# Altium integrated library Zynq-7000.IntLib: 45 symbols (part 3 of 17)
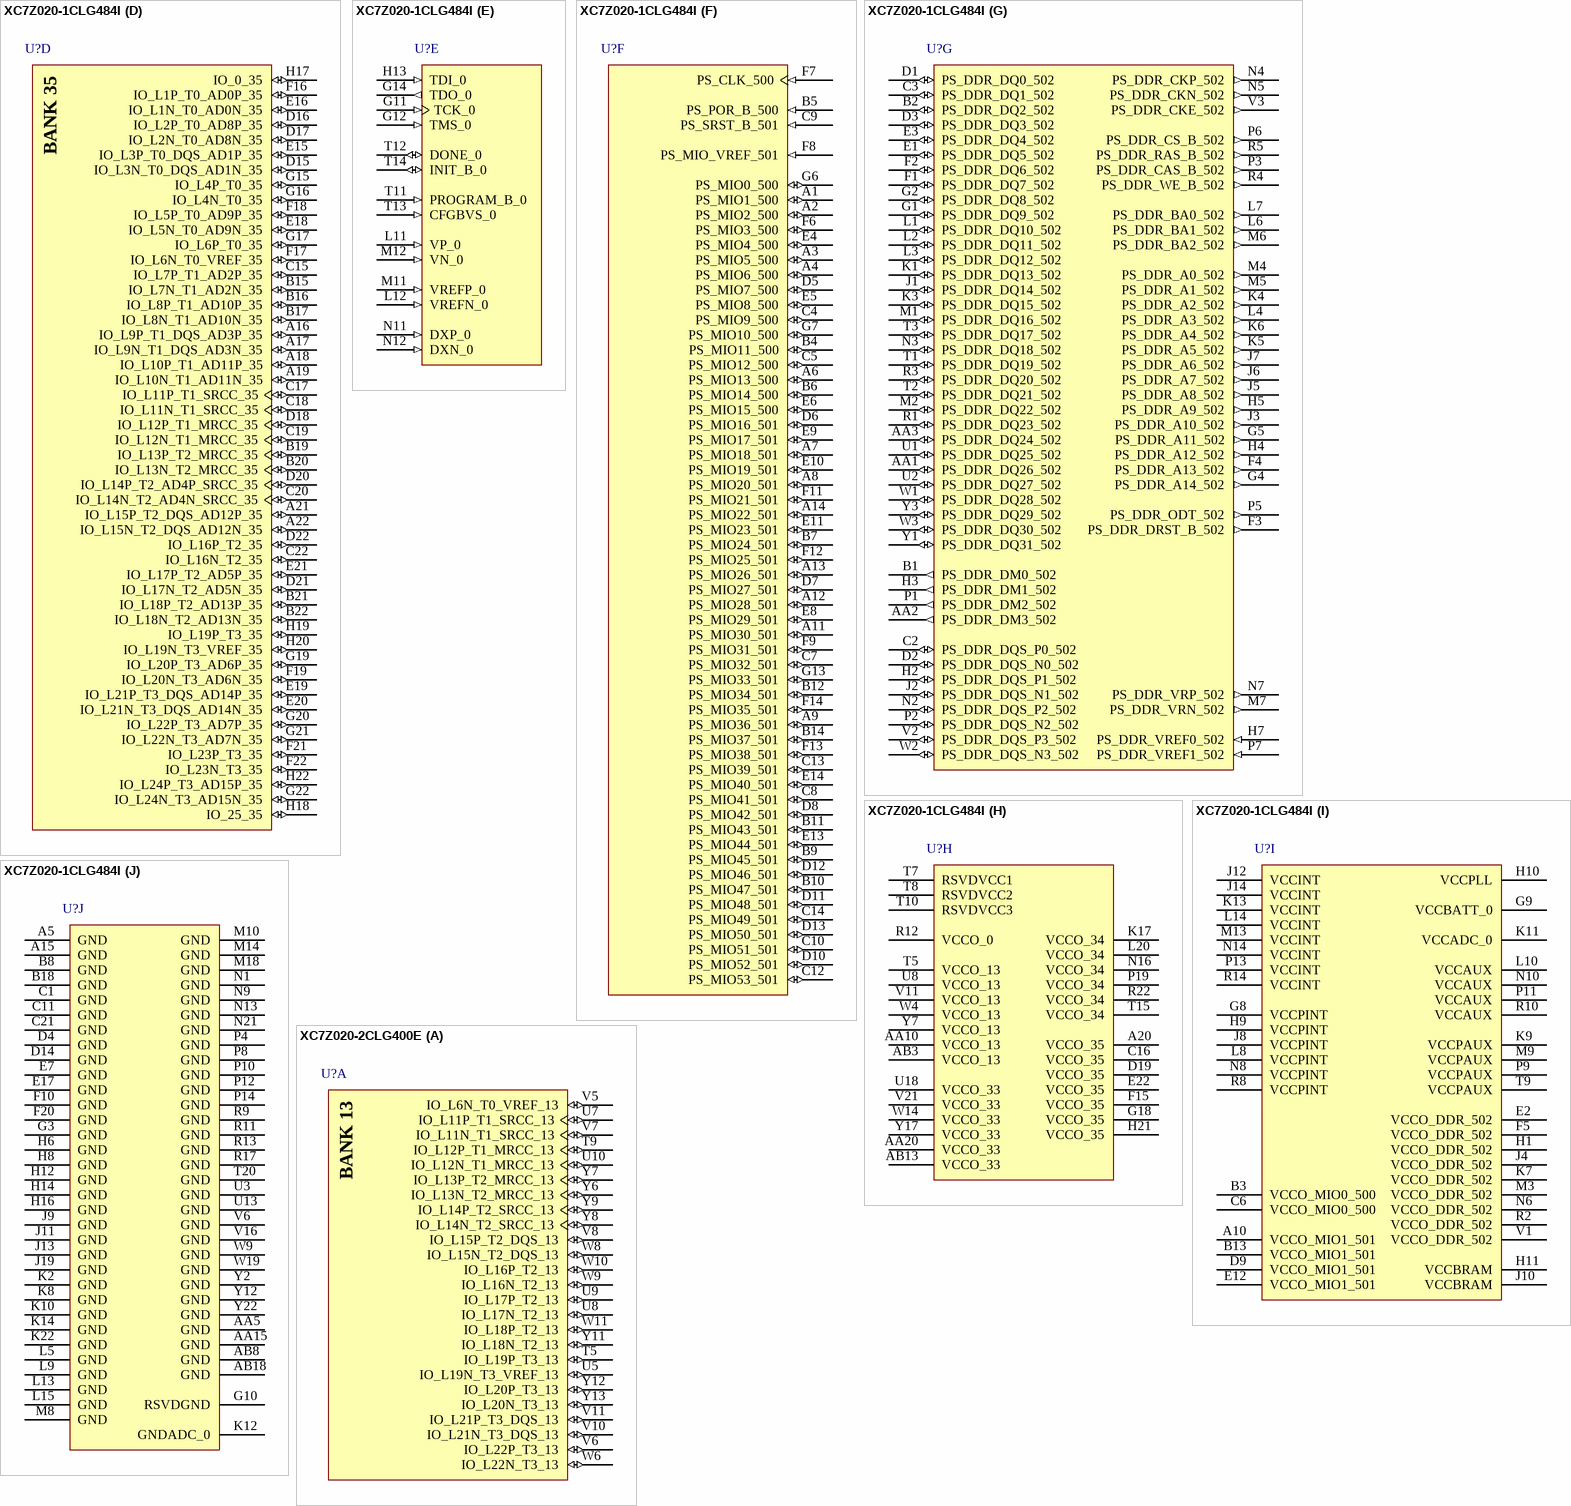
[diagram p97: symbols XC7Z020-1CLG484I to XC7Z020-2CLG400E]

## XC7Z020-1CLG484I
designator U?
667 MHz Zynq™-7000 AP SoC, 130 PS I/O, 200 FPGA I/O, 484-Ball BGA, Speed Grade 1, Industrial Grade, Pb-Free; Generic Part Number: XC7Z020; Manufacturer: Xilinx; PartNumber: XC7Z020-1CLG484I; Extensible Block RAM (# 36Kb Blocks): 560 KB (140); Flip Flops: 106400; LUTs: 53200; Speed Grade: -1; DatasheetVersion: v1.2; PackageVersion: Rev 1.1; PackageReference: CLG484; PackageDescription: Wire-Bond Chip-Scale BGA, Body 19 x 19 mm, 0.8 mm Pitch; RoHS: Pb-Free; Mounting Technology: Surface Mount; Code_JEDEC: MO-275-PPAA-2; ComponentLink1Description: Datasheet; ComponentLink1URL: http://www.xilinx.com/support/documentation/data_sheets/ds190-Zynq-7000-Overview.pdf; ComponentLink2Description: Package Specification; ComponentLink2URL: http://www.xilinx.com/support/documentation/user_guides/ug865-Zynq-7000-Pkg-Pinout.pdf; ComponentLink3Description: DC and AC Switching Characteristics; ComponentLink3URL: http://www.xilinx.com/support/documentation/data_sheets/ds187-XC7Z010-XC7Z020-Data-Sheet.pdf; ComponentLink4Description: Package File; ComponentLink4URL: http://www.xilinx.com/support/packagefiles/z7packages/xc7z020clg484pkg.txt; ComponentLink5Description: Packaging and Pinout; ComponentLink5URL: http://www.xilinx.com/support/documentation/user_guides/ug865-Zynq-7000-Pkg-Pinout.pdf; ComponentLink6Description: PCB and Layout Guide; ComponentLink6URL: http://www.xilinx.com/support/documentation/user_guides/ug483_7Series_PCB.pdf
footprint CLG484 (BGA, 484-Balls, Body 19x19mm, Pitch 0.8mm)
part A pins: AA4 IO_L18N_T2_13 (io), AA6 IO_L14N_T2_SRCC_13 (io), AA7 IO_L14P_T2_SRCC_13 (io), AA8 IO_L11N_T1_SRCC_13 (io), AA9 IO_L11P_T1_SRCC_13 (io), AA11 IO_L8P_T1_13 (io), AA12 IO_L7P_T1_13 (io), AB1 IO_L15N_T2_DQS_13 (io), AB2 IO_L15P_T2_DQS_13 (io), AB4 IO_L16N_T2_13 (io), AB5 IO_L16P_T2_13 (io), AB6 IO_L17N_T2_13 (io), AB7 IO_L17P_T2_13 (io), AB9 IO_L9N_T1_DQS_13 (io), AB10 IO_L9P_T1_DQS_13 (io), AB11 IO_L8N_T1_13 (io), AB12 IO_L7N_T1_13 (io), R6 IO_L19P_T3_13 (io), R7 IO_0_13 (io), T4 IO_L20P_T3_13 (io), T6 IO_L19N_T3_VREF_13 (io), U4 IO_L20N_T3_13 (io), U5 IO_L22N_T3_13 (io), U6 IO_L22P_T3_13 (io), U7 IO_25_13 (io), U9 IO_L6N_T0_VREF_13 (io), U10 IO_L6P_T0_13 (io), U11 IO_L5N_T0_13 (io), U12 IO_L5P_T0_13 (io), V4 IO_L21N_T3_DQS_13 (io), V5 IO_L21P_T3_DQS_13 (io), V7 IO_L23P_T3_13 (io), V8 IO_L2P_T0_13 (io), V9 IO_L1N_T0_13 (io), V10 IO_L1P_T0_13 (io), V12 IO_L4P_T0_13 (io), W5 IO_L24N_T3_13 (io), W6 IO_L24P_T3_13 (io), W7 IO_L23N_T3_13 (io), W8 IO_L2N_T0_13 (io), W10 IO_L3N_T0_DQS_13 (io), W11 IO_L3P_T0_DQS_13 (io), W12 IO_L4N_T0_13 (io), Y4 IO_L18P_T2_13 (io), Y5 IO_L13N_T2_MRCC_13 (io), Y6 IO_L13P_T2_MRCC_13 (io), Y8 IO_L12N_T1_MRCC_13 (io), Y9 IO_L12P_T1_MRCC_13 (io), Y10 IO_L10N_T1_13 (io), Y11 IO_L10P_T1_13 (io)
part B pins: AA13 IO_L23N_T3_33 (io), AA14 IO_L22N_T3_33 (io), AA16 IO_L18P_T2_33 (io), AA17 IO_L17P_T2_33 (io), AA18 IO_L12N_T1_MRCC_33 (io), AA19 IO_L11N_T1_SRCC_33 (io), AA21 IO_L8P_T1_33 (io), AA22 IO_L7P_T1_33 (io), AB14 IO_L24P_T3_33 (io), AB15 IO_L24N_T3_33 (io), AB16 IO_L18N_T2_33 (io), AB17 IO_L17N_T2_33 (io), AB19 IO_L10P_T1_33 (io), AB20 IO_L10N_T1_33 (io), AB21 IO_L8N_T1_33 (io), AB22 IO_L7N_T1_33 (io), T21 IO_L1P_T0_33 (io), T22 IO_L2P_T0_33 (io), U14 IO_25_33 (io), U15 IO_L15P_T2_DQS_33 (io), U16 IO_L15N_T2_DQS_33 (io), U17 IO_L16P_T2_33 (io), U19 IO_0_33 (io), U20 IO_L5P_T0_33 (io), U21 IO_L1N_T0_33 (io), U22 IO_L2N_T0_33 (io), V13 IO_L20P_T3_33 (io), V14 IO_L19P_T3_33 (io), V15 IO_L19N_T3_VREF_33 (io), V17 IO_L16N_T2_33 (io), V18 IO_L6P_T0_33 (io), V19 IO_L6N_T0_VREF_33 (io), V20 IO_L5N_T0_33 (io), V22 IO_L3P_T0_DQS_33 (io), W13 IO_L20N_T3_33 (io), W15 IO_L21P_T3_DQS_33 (io), W16 IO_L14P_T2_SRCC_33 (io), W17 IO_L13P_T2_MRCC_33 (io), W18 IO_L13N_T2_MRCC_33 (io), W20 IO_L4P_T0_33 (io), W21 IO_L4N_T0_33 (io), W22 IO_L3N_T0_DQS_33 (io), Y13 IO_L23P_T3_33 (io), Y14 IO_L22P_T3_33 (io), Y15 IO_L21N_T3_DQS_33 (io), Y16 IO_L14N_T2_SRCC_33 (io), Y18 IO_L12P_T1_MRCC_33 (io), Y19 IO_L11P_T1_SRCC_33 (io), Y20 IO_L9P_T1_DQS_33 (io), Y21 IO_L9N_T1_DQS_33 (io)
part C pins: H15 IO_0_34 (io), J15 IO_L1P_T0_34 (io), J16 IO_L2P_T0_34 (io), J17 IO_L2N_T0_34 (io), J18 IO_L7P_T1_34 (io), J20 IO_L9P_T1_DQS_34 (io), J21 IO_L8P_T1_34 (io), J22 IO_L8N_T1_34 (io), K15 IO_L1N_T0_34 (io), K16 IO_L3P_T0_DQS_PUDC_B_34 (io), K18 IO_L7N_T1_34 (io), K19 IO_L11P_T1_SRCC_34 (io), K20 IO_L11N_T1_SRCC_34 (io), K21 IO_L9N_T1_DQS_34 (io), L16 IO_L3N_T0_DQS_34 (io), L17 IO_L4P_T0_34 (io), L18 IO_L12P_T1_MRCC_34 (io), L19 IO_L12N_T1_MRCC_34 (io), L21 IO_L10P_T1_34 (io), L22 IO_L10N_T1_34 (io), M15 IO_L6P_T0_34 (io), M16 IO_L6N_T0_VREF_34 (io), M17 IO_L4N_T0_34 (io), M19 IO_L13P_T2_MRCC_34 (io), M20 IO_L13N_T2_MRCC_34 (io), M21 IO_L15P_T2_DQS_34 (io), M22 IO_L15N_T2_DQS_34 (io), N15 IO_L19P_T3_34 (io), N17 IO_L5P_T0_34 (io), N18 IO_L5N_T0_34 (io), N19 IO_L14P_T2_SRCC_34 (io), N20 IO_L14N_T2_SRCC_34 (io), N22 IO_L16P_T2_34 (io), P15 IO_L19N_T3_VREF_34 (io), P16 IO_L24P_T3_34 (io), P17 IO_L20P_T3_34 (io), P18 IO_L20N_T3_34 (io), P20 IO_L18P_T2_34 (io), P21 IO_L18N_T2_34 (io), P22 IO_L16N_T2_34 (io), R15 IO_25_34 (io), R16 IO_L24N_T3_34 (io), R18 IO_L23P_T3_34 (io), R19 IO_L22P_T3_34 (io), R20 IO_L17P_T2_34 (io), R21 IO_L17N_T2_34 (io), T16 IO_L21P_T3_DQS_34 (io), T17 IO_L21N_T3_DQS_34 (io), T18 IO_L23N_T3_34 (io), T19 IO_L22N_T3_34 (io)
part D pins: A16 IO_L9P_T1_DQS_AD3P_35 (io), A17 IO_L9N_T1_DQS_AD3N_35 (io), A18 IO_L10P_T1_AD11P_35 (io), A19 IO_L10N_T1_AD11N_35 (io), A21 IO_L15P_T2_DQS_AD12P_35 (io), A22 IO_L15N_T2_DQS_AD12N_35 (io), B15 IO_L7N_T1_AD2N_35 (io), B16 IO_L8P_T1_AD10P_35 (io), B17 IO_L8N_T1_AD10N_35 (io), B19 IO_L13P_T2_MRCC_35 (io), B20 IO_L13N_T2_MRCC_35 (io), B21 IO_L18P_T2_AD13P_35 (io), B22 IO_L18N_T2_AD13N_35 (io), C15 IO_L7P_T1_AD2P_35 (io), C17 IO_L11P_T1_SRCC_35 (io), C18 IO_L11N_T1_SRCC_35 (io), C19 IO_L12N_T1_MRCC_35 (io), C20 IO_L14N_T2_AD4N_SRCC_35 (io), C22 IO_L16N_T2_35 (io), D15 IO_L3N_T0_DQS_AD1N_35 (io), D16 IO_L2P_T0_AD8P_35 (io), D17 IO_L2N_T0_AD8N_35 (io), D18 IO_L12P_T1_MRCC_35 (io), D20 IO_L14P_T2_AD4P_SRCC_35 (io), D21 IO_L17N_T2_AD5N_35 (io), D22 IO_L16P_T2_35 (io), E15 IO_L3P_T0_DQS_AD1P_35 (io), E16 IO_L1N_T0_AD0N_35 (io), E18 IO_L5N_T0_AD9N_35 (io), E19 IO_L21P_T3_DQS_AD14P_35 (io), E20 IO_L21N_T3_DQS_AD14N_35 (io), E21 IO_L17P_T2_AD5P_35 (io), F16 IO_L1P_T0_AD0P_35 (io), F17 IO_L6N_T0_VREF_35 (io), F18 IO_L5P_T0_AD9P_35 (io), F19 IO_L20N_T3_AD6N_35 (io), F21 IO_L23P_T3_35 (io), F22 IO_L23N_T3_35 (io), G15 IO_L4P_T0_35 (io), G16 IO_L4N_T0_35 (io), G17 IO_L6P_T0_35 (io), G19 IO_L20P_T3_AD6P_35 (io), G20 IO_L22P_T3_AD7P_35 (io), G21 IO_L22N_T3_AD7N_35 (io), G22 IO_L24N_T3_AD15N_35 (io), H17 IO_0_35 (io), H18 IO_25_35 (io), H19 IO_L19P_T3_35 (io), H20 IO_L19N_T3_VREF_35 (io), H22 IO_L24P_T3_AD15P_35 (io)
part E pins: G11 TCK_0 (in), G12 TMS_0 (in), G14 TDO_0 (out), H13 TDI_0 (in), L11 VP_0 (in), L12 VREFN_0 (in), M11 VREFP_0 (in), M12 VN_0 (in), N11 DXP_0 (in), N12 DXN_0 (in), T11 PROGRAM_B_0 (in), T12 DONE_0 (io), T13 CFGBVS_0 (in), T14 INIT_B_0 (io)
part F pins: A1 PS_MIO1_500 (io), A2 PS_MIO2_500 (io), A3 PS_MIO5_500 (io), A4 PS_MIO6_500 (io), A6 PS_MIO13_500 (io), A7 PS_MIO18_501 (io), A8 PS_MIO20_501 (io), A9 PS_MIO36_501 (io), A11 PS_MIO30_501 (io), A12 PS_MIO28_501 (io), A13 PS_MIO26_501 (io), A14 PS_MIO22_501 (io), B4 PS_MIO11_500 (io), B5 PS_POR_B_500 (in), B6 PS_MIO14_500 (io), B7 PS_MIO24_501 (io), B9 PS_MIO45_501 (io), B10 PS_MIO47_501 (io), B11 PS_MIO43_501 (io), B12 PS_MIO34_501 (io), B14 PS_MIO37_501 (io), C4 PS_MIO9_500 (io), C5 PS_MIO12_500 (io), C7 PS_MIO32_501 (io), C8 PS_MIO41_501 (io), C9 PS_SRST_B_501 (in), C10 PS_MIO51_501 (io), C12 PS_MIO53_501 (io), C13 PS_MIO39_501 (io), C14 PS_MIO49_501 (io), D5 PS_MIO7_500 (io), D6 PS_MIO16_501 (io), D7 PS_MIO27_501 (io), D8 PS_MIO42_501 (io), D10 PS_MIO52_501 (io), D11 PS_MIO48_501 (io), D12 PS_MIO46_501 (io), D13 PS_MIO50_501 (io), E4 PS_MIO4_500 (io), E5 PS_MIO8_500 (io), E6 PS_MIO15_500 (io), E8 PS_MIO29_501 (io), E9 PS_MIO17_501 (io), E10 PS_MIO19_501 (io), E11 PS_MIO23_501 (io), E13 PS_MIO44_501 (io), E14 PS_MIO40_501 (io), F6 PS_MIO3_500 (io), F7 PS_CLK_500 (in), F8 PS_MIO_VREF_501 (in), F9 PS_MIO31_501 (io), F11 PS_MIO21_501 (io), F12 PS_MIO25_501 (io), F13 PS_MIO38_501 (io), F14 PS_MIO35_501 (io), G6 PS_MIO0_500 (io), G7 PS_MIO10_500 (io), G13 PS_MIO33_501 (io)
part G pins: AA1 PS_DDR_DQ26_502 (io), AA2 PS_DDR_DM3_502 (out), AA3 PS_DDR_DQ24_502 (io), B1 PS_DDR_DM0_502 (out), B2 PS_DDR_DQ2_502 (io), C2 PS_DDR_DQS_P0_502 (io), C3 PS_DDR_DQ1_502 (io), D1 PS_DDR_DQ0_502 (io), D2 PS_DDR_DQS_N0_502 (io), D3 PS_DDR_DQ3_502 (io), E1 PS_DDR_DQ5_502 (io), E3 PS_DDR_DQ4_502 (io), F1 PS_DDR_DQ7_502 (io), F2 PS_DDR_DQ6_502 (io), F3 PS_DDR_DRST_B_502 (out), F4 PS_DDR_A13_502 (out), G1 PS_DDR_DQ9_502 (io), G2 PS_DDR_DQ8_502 (io), G4 PS_DDR_A14_502 (out), G5 PS_DDR_A11_502 (out), H2 PS_DDR_DQS_P1_502 (io), H3 PS_DDR_DM1_502 (out), H4 PS_DDR_A12_502 (out), H5 PS_DDR_A9_502 (out), H7 PS_DDR_VREF0_502 (in), J1 PS_DDR_DQ14_502 (io), J2 PS_DDR_DQS_N1_502 (io), J3 PS_DDR_A10_502 (out), J5 PS_DDR_A8_502 (out), J6 PS_DDR_A7_502 (out), J7 PS_DDR_A6_502 (out), K1 PS_DDR_DQ13_502 (io), K3 PS_DDR_DQ15_502 (io), K4 PS_DDR_A2_502 (out), K5 PS_DDR_A5_502 (out), K6 PS_DDR_A4_502 (out), L1 PS_DDR_DQ10_502 (io), L2 PS_DDR_DQ11_502 (io), L3 PS_DDR_DQ12_502 (io), L4 PS_DDR_A3_502 (out), L6 PS_DDR_BA1_502 (out), L7 PS_DDR_BA0_502 (out), M1 PS_DDR_DQ16_502 (io), M2 PS_DDR_DQ22_502 (io), M4 PS_DDR_A0_502 (out), M5 PS_DDR_A1_502 (out), M6 PS_DDR_BA2_502 (out), M7 PS_DDR_VRN_502 (out), N2 PS_DDR_DQS_P2_502 (io), N3 PS_DDR_DQ18_502 (io), N4 PS_DDR_CKP_502 (out), N5 PS_DDR_CKN_502 (out), N7 PS_DDR_VRP_502 (out), P1 PS_DDR_DM2_502 (out), P2 PS_DDR_DQS_N2_502 (io), P3 PS_DDR_CAS_B_502 (out), P5 PS_DDR_ODT_502 (out), P6 PS_DDR_CS_B_502 (out), P7 PS_DDR_VREF1_502 (in), R1 PS_DDR_DQ23_502 (io), R3 PS_DDR_DQ20_502 (io), R4 PS_DDR_WE_B_502 (out), R5 PS_DDR_RAS_B_502 (out), T1 PS_DDR_DQ19_502 (io), T2 PS_DDR_DQ21_502 (io), T3 PS_DDR_DQ17_502 (io), U1 PS_DDR_DQ25_502 (io), U2 PS_DDR_DQ27_502 (io), V2 PS_DDR_DQS_P3_502 (io), V3 PS_DDR_CKE_502 (out), W1 PS_DDR_DQ28_502 (io), W2 PS_DDR_DQS_N3_502 (io), W3 PS_DDR_DQ30_502 (io), Y1 PS_DDR_DQ31_502 (io), Y3 PS_DDR_DQ29_502 (io)
part H pins: A20 VCCO_35 (power), AA10 VCCO_13 (power), AA20 VCCO_33 (power), AB3 VCCO_13 (power), AB13 VCCO_33 (power), C16 VCCO_35 (power), D19 VCCO_35 (power), E22 VCCO_35 (power), F15 VCCO_35 (power), G18 VCCO_35 (power), H21 VCCO_35 (power), K17 VCCO_34 (power), L20 VCCO_34 (power), N16 VCCO_34 (power), P19 VCCO_34 (power), R12 VCCO_0 (power), R22 VCCO_34 (power), T5 VCCO_13 (power), T7 RSVDVCC1 (power), T8 RSVDVCC2 (power), T10 RSVDVCC3 (power), T15 VCCO_34 (power), U8 VCCO_13 (power), U18 VCCO_33 (power), V11 VCCO_13 (power), V21 VCCO_33 (power), W4 VCCO_13 (power), W14 VCCO_33 (power), Y7 VCCO_13 (power), Y17 VCCO_33 (power)
part I pins: A10 VCCO_MIO1_501 (power), B3 VCCO_MIO0_500 (power), B13 VCCO_MIO1_501 (power), C6 VCCO_MIO0_500 (power), D9 VCCO_MIO1_501 (power), E2 VCCO_DDR_502 (power), E12 VCCO_MIO1_501 (power), F5 VCCO_DDR_502 (power), G8 VCCPINT (power), G9 VCCBATT_0 (power), H1 VCCO_DDR_502 (power), H9 VCCPINT (power), H10 VCCPLL (power), H11 VCCBRAM (power), J4 VCCO_DDR_502 (power), J8 VCCPINT (power), J10 VCCBRAM (power), J12 VCCINT (power), J14 VCCINT (power), K7 VCCO_DDR_502 (power), K9 VCCPAUX (power), K11 VCCADC_0 (power), K13 VCCINT (power), L8 VCCPINT (power), L10 VCCAUX (power), L14 VCCINT (power), M3 VCCO_DDR_502 (power), M9 VCCPAUX (power), M13 VCCINT (power), N6 VCCO_DDR_502 (power), N8 VCCPINT (power), N10 VCCAUX (power), N14 VCCINT (power), P9 VCCPAUX (power), P11 VCCAUX (power), P13 VCCINT (power), R2 VCCO_DDR_502 (power), R8 VCCPINT (power), R10 VCCAUX (power), R14 VCCINT (power), T9 VCCPAUX (power), V1 VCCO_DDR_502 (power)
part J pins: A5 GND (power), A15 GND (power), AA5 GND (power), AA15 GND (power), AB8 GND (power), AB18 GND (power), B8 GND (power), B18 GND (power), C1 GND (power), C11 GND (power), C21 GND (power), D4 GND (power), D14 GND (power), E7 GND (power), E17 GND (power), F10 GND (power), F20 GND (power), G3 GND (power), G10 RSVDGND (power), H6 GND (power), H8 GND (power), H12 GND (power), H14 GND (power), H16 GND (power), J9 GND (power), J11 GND (power), J13 GND (power), J19 GND (power), K2 GND (power), K8 GND (power), K10 GND (power), K12 GNDADC_0 (power), K14 GND (power), K22 GND (power), L5 GND (power), L9 GND (power), L13 GND (power), L15 GND (power), M8 GND (power), M10 GND (power), M14 GND (power), M18 GND (power), N1 GND (power), N9 GND (power), N13 GND (power), N21 GND (power), P4 GND (power), P8 GND (power), P10 GND (power), P12 GND (power), P14 GND (power), R9 GND (power), R11 GND (power), R13 GND (power), R17 GND (power), T20 GND (power), U3 GND (power), U13 GND (power), V6 GND (power), V16 GND (power), W9 GND (power), W19 GND (power), Y2 GND (power), Y12 GND (power), Y22 GND (power)
part A text: BANK 13
part B text: BANK 33
part C text: BANK 34
part D text: BANK 35

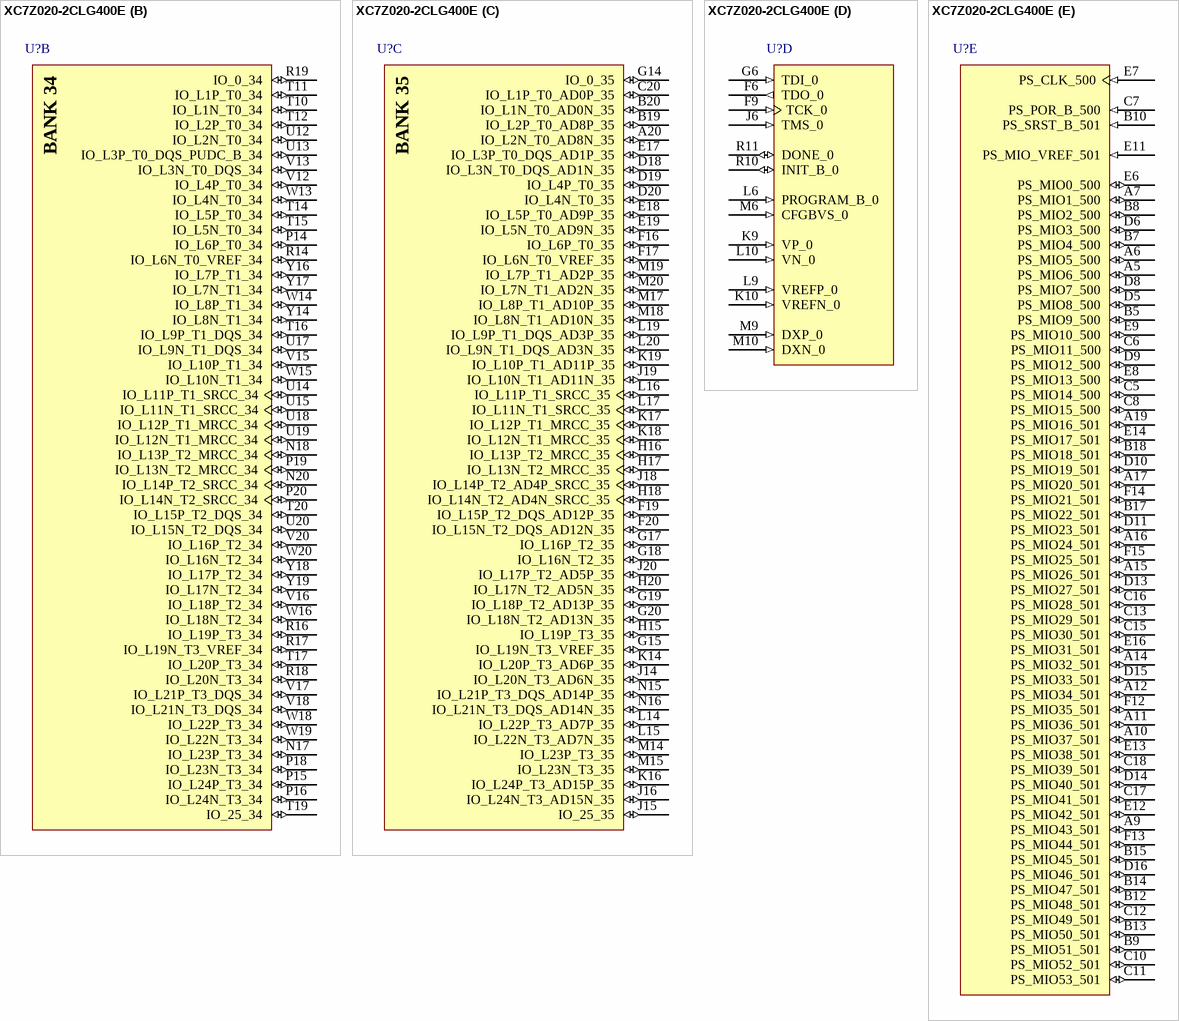
[diagram p13: symbol XC7Z020-2CLG400E]

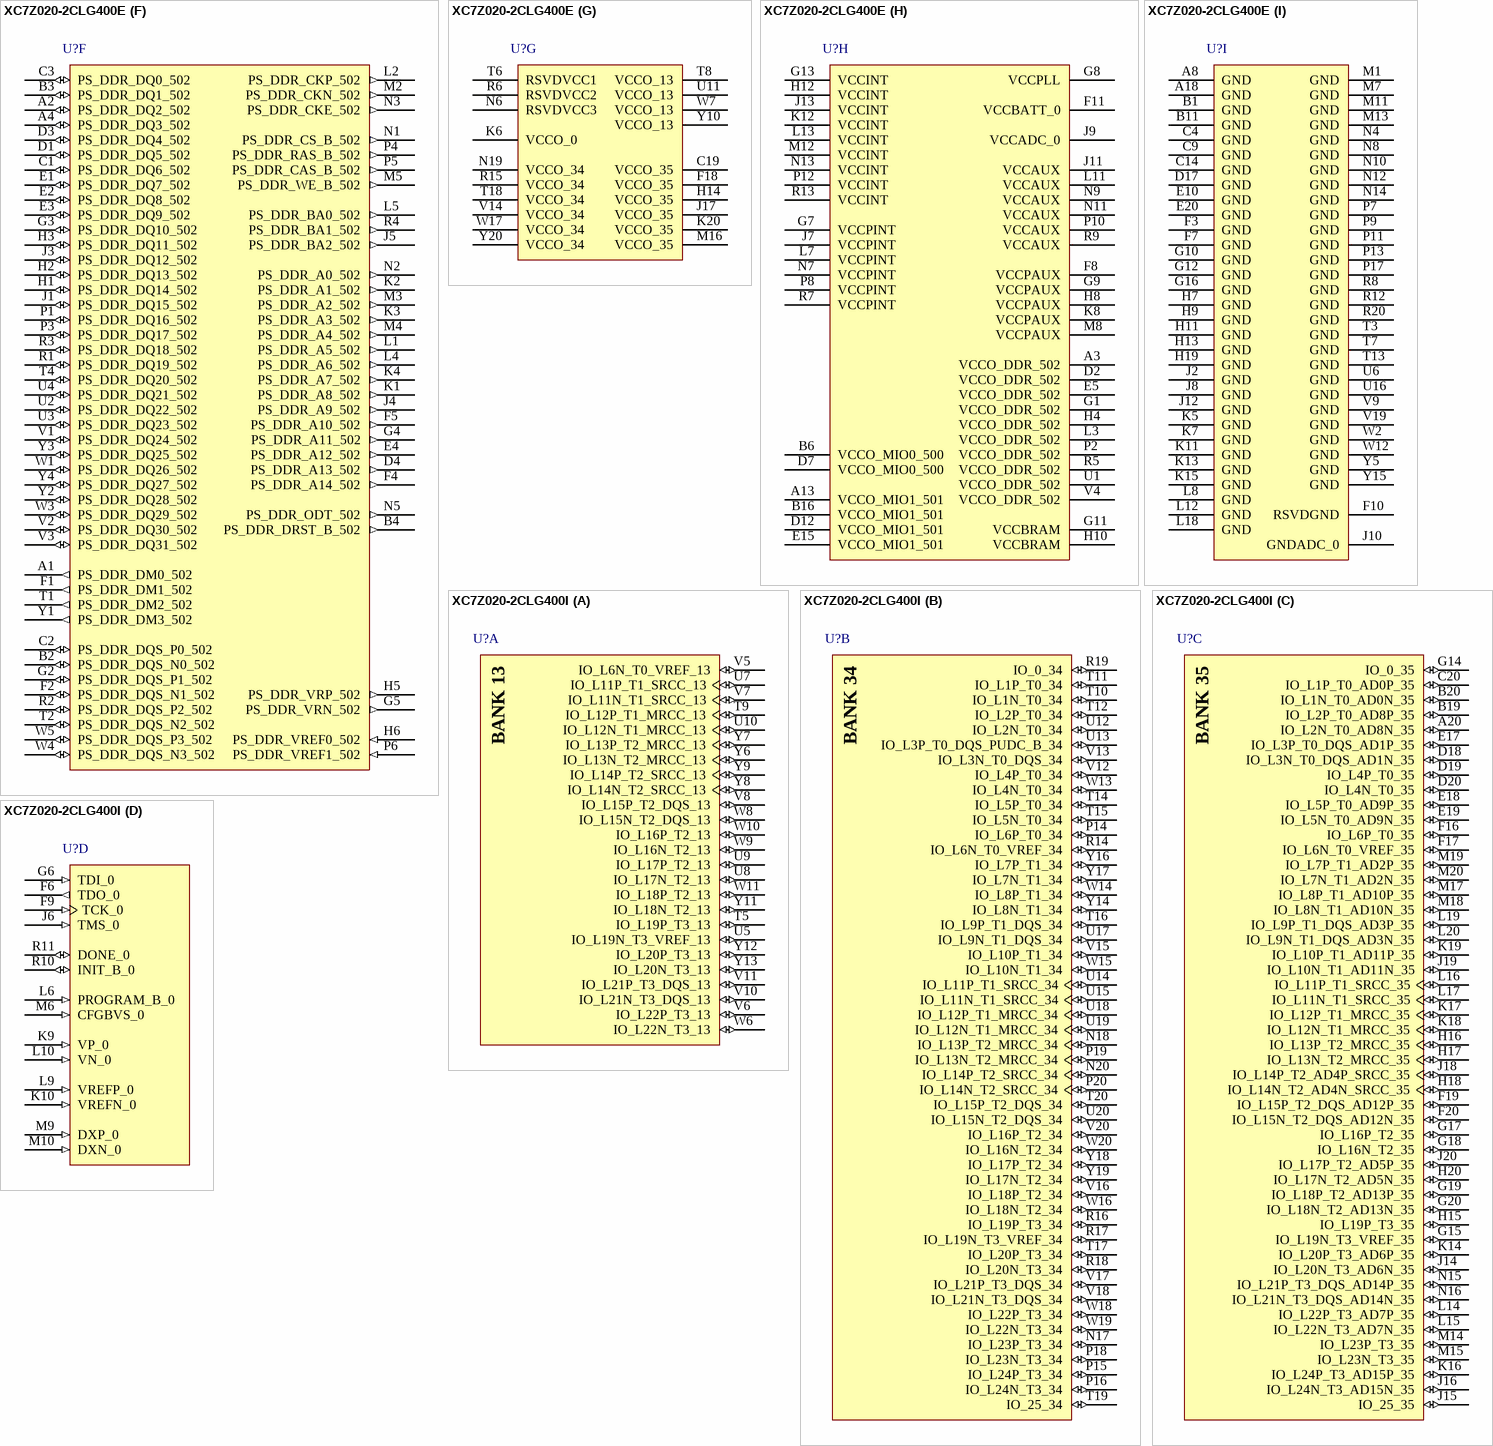
[diagram p14: symbols XC7Z020-2CLG400E to XC7Z020-2CLG400I]

## XC7Z020-2CLG400E
designator U?
733 MHz Zynq™-7000 AP SoC, 130 PS I/O, 125 FPGA I/O, 400-Ball BGA, Speed Grade 2, Extended Grade, Pb-Free; Generic Part Number: XC7Z020; Manufacturer: Xilinx; PartNumber: XC7Z020-2CLG400E; Extensible Block RAM (# 36Kb Blocks): 560 KB (140); Flip Flops: 106400; LUTs: 53200; Speed Grade: -2; DatasheetVersion: v1.2; PackageVersion: Rev 1.1; PackageReference: CLG400; PackageDescription: Wire-Bond Chip-Scale BGA, Body 17 x 17 mm, 0.8 mm Pitch; RoHS: Pb-Free; Mounting Technology: Surface Mount; Code_JEDEC: MO-275-MMAA-1; ComponentLink1Description: Datasheet; ComponentLink1URL: http://www.xilinx.com/support/documentation/data_sheets/ds190-Zynq-7000-Overview.pdf; ComponentLink2Description: Package Specification; ComponentLink2URL: http://www.xilinx.com/support/documentation/user_guides/ug865-Zynq-7000-Pkg-Pinout.pdf; ComponentLink3Description: DC and AC Switching Characteristics; ComponentLink3URL: http://www.xilinx.com/support/documentation/data_sheets/ds187-XC7Z010-XC7Z020-Data-Sheet.pdf; ComponentLink4Description: Package File; ComponentLink4URL: http://www.xilinx.com/support/packagefiles/z7packages/xc7z020clg400pkg.txt; ComponentLink5Description: Packaging and Pinout; ComponentLink5URL: http://www.xilinx.com/support/documentation/user_guides/ug865-Zynq-7000-Pkg-Pinout.pdf; ComponentLink6Description: PCB and Layout Guide; ComponentLink6URL: http://www.xilinx.com/support/documentation/user_guides/ug483_7Series_PCB.pdf
footprint CLG400 (BGA, 400-Balls, Body 17x17mm, Pitch 0.8mm)
part A pins: T5 IO_L19P_T3_13 (io), T9 IO_L12P_T1_MRCC_13 (io), U5 IO_L19N_T3_VREF_13 (io), U7 IO_L11P_T1_SRCC_13 (io), U8 IO_L17N_T2_13 (io), U9 IO_L17P_T2_13 (io), U10 IO_L12N_T1_MRCC_13 (io), V5 IO_L6N_T0_VREF_13 (io), V6 IO_L22P_T3_13 (io), V7 IO_L11N_T1_SRCC_13 (io), V8 IO_L15P_T2_DQS_13 (io), V10 IO_L21N_T3_DQS_13 (io), V11 IO_L21P_T3_DQS_13 (io), W6 IO_L22N_T3_13 (io), W8 IO_L15N_T2_DQS_13 (io), W9 IO_L16N_T2_13 (io), W10 IO_L16P_T2_13 (io), W11 IO_L18P_T2_13 (io), Y6 IO_L13N_T2_MRCC_13 (io), Y7 IO_L13P_T2_MRCC_13 (io), Y8 IO_L14N_T2_SRCC_13 (io), Y9 IO_L14P_T2_SRCC_13 (io), Y11 IO_L18N_T2_13 (io), Y12 IO_L20P_T3_13 (io), Y13 IO_L20N_T3_13 (io)
part B pins: N17 IO_L23P_T3_34 (io), N18 IO_L13P_T2_MRCC_34 (io), N20 IO_L14P_T2_SRCC_34 (io), P14 IO_L6P_T0_34 (io), P15 IO_L24P_T3_34 (io), P16 IO_L24N_T3_34 (io), P18 IO_L23N_T3_34 (io), P19 IO_L13N_T2_MRCC_34 (io), P20 IO_L14N_T2_SRCC_34 (io), R14 IO_L6N_T0_VREF_34 (io), R16 IO_L19P_T3_34 (io), R17 IO_L19N_T3_VREF_34 (io), R18 IO_L20N_T3_34 (io), R19 IO_0_34 (io), T10 IO_L1N_T0_34 (io), T11 IO_L1P_T0_34 (io), T12 IO_L2P_T0_34 (io), T14 IO_L5P_T0_34 (io), T15 IO_L5N_T0_34 (io), T16 IO_L9P_T1_DQS_34 (io), T17 IO_L20P_T3_34 (io), T19 IO_25_34 (io), T20 IO_L15P_T2_DQS_34 (io), U12 IO_L2N_T0_34 (io), U13 IO_L3P_T0_DQS_PUDC_B_34 (io), U14 IO_L11P_T1_SRCC_34 (io), U15 IO_L11N_T1_SRCC_34 (io), U17 IO_L9N_T1_DQS_34 (io), U18 IO_L12P_T1_MRCC_34 (io), U19 IO_L12N_T1_MRCC_34 (io), U20 IO_L15N_T2_DQS_34 (io), V12 IO_L4P_T0_34 (io), V13 IO_L3N_T0_DQS_34 (io), V15 IO_L10P_T1_34 (io), V16 IO_L18P_T2_34 (io), V17 IO_L21P_T3_DQS_34 (io), V18 IO_L21N_T3_DQS_34 (io), V20 IO_L16P_T2_34 (io), W13 IO_L4N_T0_34 (io), W14 IO_L8P_T1_34 (io), W15 IO_L10N_T1_34 (io), W16 IO_L18N_T2_34 (io), W18 IO_L22P_T3_34 (io), W19 IO_L22N_T3_34 (io), W20 IO_L16N_T2_34 (io), Y14 IO_L8N_T1_34 (io), Y16 IO_L7P_T1_34 (io), Y17 IO_L7N_T1_34 (io), Y18 IO_L17P_T2_34 (io), Y19 IO_L17N_T2_34 (io)
part C pins: A20 IO_L2N_T0_AD8N_35 (io), B19 IO_L2P_T0_AD8P_35 (io), B20 IO_L1N_T0_AD0N_35 (io), C20 IO_L1P_T0_AD0P_35 (io), D18 IO_L3N_T0_DQS_AD1N_35 (io), D19 IO_L4P_T0_35 (io), D20 IO_L4N_T0_35 (io), E17 IO_L3P_T0_DQS_AD1P_35 (io), E18 IO_L5P_T0_AD9P_35 (io), E19 IO_L5N_T0_AD9N_35 (io), F16 IO_L6P_T0_35 (io), F17 IO_L6N_T0_VREF_35 (io), F19 IO_L15P_T2_DQS_AD12P_35 (io), F20 IO_L15N_T2_DQS_AD12N_35 (io), G14 IO_0_35 (io), G15 IO_L19N_T3_VREF_35 (io), G17 IO_L16P_T2_35 (io), G18 IO_L16N_T2_35 (io), G19 IO_L18P_T2_AD13P_35 (io), G20 IO_L18N_T2_AD13N_35 (io), H15 IO_L19P_T3_35 (io), H16 IO_L13P_T2_MRCC_35 (io), H17 IO_L13N_T2_MRCC_35 (io), H18 IO_L14N_T2_AD4N_SRCC_35 (io), H20 IO_L17N_T2_AD5N_35 (io), J14 IO_L20N_T3_AD6N_35 (io), J15 IO_25_35 (io), J16 IO_L24N_T3_AD15N_35 (io), J18 IO_L14P_T2_AD4P_SRCC_35 (io), J19 IO_L10N_T1_AD11N_35 (io), J20 IO_L17P_T2_AD5P_35 (io), K14 IO_L20P_T3_AD6P_35 (io), K16 IO_L24P_T3_AD15P_35 (io), K17 IO_L12P_T1_MRCC_35 (io), K18 IO_L12N_T1_MRCC_35 (io), K19 IO_L10P_T1_AD11P_35 (io), L14 IO_L22P_T3_AD7P_35 (io), L15 IO_L22N_T3_AD7N_35 (io), L16 IO_L11P_T1_SRCC_35 (io), L17 IO_L11N_T1_SRCC_35 (io), L19 IO_L9P_T1_DQS_AD3P_35 (io), L20 IO_L9N_T1_DQS_AD3N_35 (io), M14 IO_L23P_T3_35 (io), M15 IO_L23N_T3_35 (io), M17 IO_L8P_T1_AD10P_35 (io), M18 IO_L8N_T1_AD10N_35 (io), M19 IO_L7P_T1_AD2P_35 (io), M20 IO_L7N_T1_AD2N_35 (io), N15 IO_L21P_T3_DQS_AD14P_35 (io), N16 IO_L21N_T3_DQS_AD14N_35 (io)
part D pins: F6 TDO_0 (out), F9 TCK_0 (in), G6 TDI_0 (in), J6 TMS_0 (in), K9 VP_0 (in), K10 VREFN_0 (in), L6 PROGRAM_B_0 (in), L9 VREFP_0 (in), L10 VN_0 (in), M6 CFGBVS_0 (in), M9 DXP_0 (in), M10 DXN_0 (in), R10 INIT_B_0 (io), R11 DONE_0 (io)
part E pins: A5 PS_MIO6_500 (io), A6 PS_MIO5_500 (io), A7 PS_MIO1_500 (io), A9 PS_MIO43_501 (io), A10 PS_MIO37_501 (io), A11 PS_MIO36_501 (io), A12 PS_MIO34_501 (io), A14 PS_MIO32_501 (io), A15 PS_MIO26_501 (io), A16 PS_MIO24_501 (io), A17 PS_MIO20_501 (io), A19 PS_MIO16_501 (io), B5 PS_MIO9_500 (io), B7 PS_MIO4_500 (io), B8 PS_MIO2_500 (io), B9 PS_MIO51_501 (io), B10 PS_SRST_B_501 (in), B12 PS_MIO48_501 (io), B13 PS_MIO50_501 (io), B14 PS_MIO47_501 (io), B15 PS_MIO45_501 (io), B17 PS_MIO22_501 (io), B18 PS_MIO18_501 (io), C5 PS_MIO14_500 (io), C6 PS_MIO11_500 (io), C7 PS_POR_B_500 (in), C8 PS_MIO15_500 (io), C10 PS_MIO52_501 (io), C11 PS_MIO53_501 (io), C12 PS_MIO49_501 (io), C13 PS_MIO29_501 (io), C15 PS_MIO30_501 (io), C16 PS_MIO28_501 (io), C17 PS_MIO41_501 (io), C18 PS_MIO39_501 (io), D5 PS_MIO8_500 (io), D6 PS_MIO3_500 (io), D8 PS_MIO7_500 (io), D9 PS_MIO12_500 (io), D10 PS_MIO19_501 (io), D11 PS_MIO23_501 (io), D13 PS_MIO27_501 (io), D14 PS_MIO40_501 (io), D15 PS_MIO33_501 (io), D16 PS_MIO46_501 (io), E6 PS_MIO0_500 (io), E7 PS_CLK_500 (in), E8 PS_MIO13_500 (io), E9 PS_MIO10_500 (io), E11 PS_MIO_VREF_501 (in), E12 PS_MIO42_501 (io), E13 PS_MIO38_501 (io), E14 PS_MIO17_501 (io), E16 PS_MIO31_501 (io), F12 PS_MIO35_501 (io), F13 PS_MIO44_501 (io), F14 PS_MIO21_501 (io), F15 PS_MIO25_501 (io)
part F pins: A1 PS_DDR_DM0_502 (out), A2 PS_DDR_DQ2_502 (io), A4 PS_DDR_DQ3_502 (io), B2 PS_DDR_DQS_N0_502 (io), B3 PS_DDR_DQ1_502 (io), B4 PS_DDR_DRST_B_502 (out), C1 PS_DDR_DQ6_502 (io), C2 PS_DDR_DQS_P0_502 (io), C3 PS_DDR_DQ0_502 (io), D1 PS_DDR_DQ5_502 (io), D3 PS_DDR_DQ4_502 (io), D4 PS_DDR_A13_502 (out), E1 PS_DDR_DQ7_502 (io), E2 PS_DDR_DQ8_502 (io), E3 PS_DDR_DQ9_502 (io), E4 PS_DDR_A12_502 (out), F1 PS_DDR_DM1_502 (out), F2 PS_DDR_DQS_N1_502 (io), F4 PS_DDR_A14_502 (out), F5 PS_DDR_A10_502 (out), G2 PS_DDR_DQS_P1_502 (io), G3 PS_DDR_DQ10_502 (io), G4 PS_DDR_A11_502 (out), G5 PS_DDR_VRN_502 (out), H1 PS_DDR_DQ14_502 (io), H2 PS_DDR_DQ13_502 (io), H3 PS_DDR_DQ11_502 (io), H5 PS_DDR_VRP_502 (out), H6 PS_DDR_VREF0_502 (in), J1 PS_DDR_DQ15_502 (io), J3 PS_DDR_DQ12_502 (io), J4 PS_DDR_A9_502 (out), J5 PS_DDR_BA2_502 (out), K1 PS_DDR_A8_502 (out), K2 PS_DDR_A1_502 (out), K3 PS_DDR_A3_502 (out), K4 PS_DDR_A7_502 (out), L1 PS_DDR_A5_502 (out), L2 PS_DDR_CKP_502 (out), L4 PS_DDR_A6_502 (out), L5 PS_DDR_BA0_502 (out), M2 PS_DDR_CKN_502 (out), M3 PS_DDR_A2_502 (out), M4 PS_DDR_A4_502 (out), M5 PS_DDR_WE_B_502 (out), N1 PS_DDR_CS_B_502 (out), N2 PS_DDR_A0_502 (out), N3 PS_DDR_CKE_502 (out), N5 PS_DDR_ODT_502 (out), P1 PS_DDR_DQ16_502 (io), P3 PS_DDR_DQ17_502 (io), P4 PS_DDR_RAS_B_502 (out), P5 PS_DDR_CAS_B_502 (out), P6 PS_DDR_VREF1_502 (in), R1 PS_DDR_DQ19_502 (io), R2 PS_DDR_DQS_P2_502 (io), R3 PS_DDR_DQ18_502 (io), R4 PS_DDR_BA1_502 (out), T1 PS_DDR_DM2_502 (out), T2 PS_DDR_DQS_N2_502 (io), T4 PS_DDR_DQ20_502 (io), U2 PS_DDR_DQ22_502 (io), U3 PS_DDR_DQ23_502 (io), U4 PS_DDR_DQ21_502 (io), V1 PS_DDR_DQ24_502 (io), V2 PS_DDR_DQ30_502 (io), V3 PS_DDR_DQ31_502 (io), W1 PS_DDR_DQ26_502 (io), W3 PS_DDR_DQ29_502 (io), W4 PS_DDR_DQS_N3_502 (io), W5 PS_DDR_DQS_P3_502 (io), Y1 PS_DDR_DM3_502 (out), Y2 PS_DDR_DQ28_502 (io), Y3 PS_DDR_DQ25_502 (io), Y4 PS_DDR_DQ27_502 (io)
part G pins: C19 VCCO_35 (power), F18 VCCO_35 (power), H14 VCCO_35 (power), J17 VCCO_35 (power), K6 VCCO_0 (power), K20 VCCO_35 (power), M16 VCCO_35 (power), N6 RSVDVCC3 (power), N19 VCCO_34 (power), R6 RSVDVCC2 (power), R15 VCCO_34 (power), T6 RSVDVCC1 (power), T8 VCCO_13 (power), T18 VCCO_34 (power), U11 VCCO_13 (power), V14 VCCO_34 (power), W7 VCCO_13 (power), W17 VCCO_34 (power), Y10 VCCO_13 (power), Y20 VCCO_34 (power)
part H pins: A3 VCCO_DDR_502 (power), A13 VCCO_MIO1_501 (power), B6 VCCO_MIO0_500 (power), B16 VCCO_MIO1_501 (power), D2 VCCO_DDR_502 (power), D7 VCCO_MIO0_500 (power), D12 VCCO_MIO1_501 (power), E5 VCCO_DDR_502 (power), E15 VCCO_MIO1_501 (power), F8 VCCPAUX (power), F11 VCCBATT_0 (power), G1 VCCO_DDR_502 (power), G7 VCCPINT (power), G8 VCCPLL (power), G9 VCCPAUX (power), G11 VCCBRAM (power), G13 VCCINT (power), H4 VCCO_DDR_502 (power), H8 VCCPAUX (power), H10 VCCBRAM (power), H12 VCCINT (power), J7 VCCPINT (power), J9 VCCADC_0 (power), J11 VCCAUX (power), J13 VCCINT (power), K8 VCCPAUX (power), K12 VCCINT (power), L3 VCCO_DDR_502 (power), L7 VCCPINT (power), L11 VCCAUX (power), L13 VCCINT (power), M8 VCCPAUX (power), M12 VCCINT (power), N7 VCCPINT (power), N9 VCCAUX (power), N11 VCCAUX (power), N13 VCCINT (power), P2 VCCO_DDR_502 (power), P8 VCCPINT (power), P10 VCCAUX (power), P12 VCCINT (power), R5 VCCO_DDR_502 (power), R7 VCCPINT (power), R9 VCCAUX (power), R13 VCCINT (power), U1 VCCO_DDR_502 (power), V4 VCCO_DDR_502 (power)
part I pins: A8 GND (power), A18 GND (power), B1 GND (power), B11 GND (power), C4 GND (power), C9 GND (power), C14 GND (power), D17 GND (power), E10 GND (power), E20 GND (power), F3 GND (power), F7 GND (power), F10 RSVDGND (power), G10 GND (power), G12 GND (power), G16 GND (power), H7 GND (power), H9 GND (power), H11 GND (power), H13 GND (power), H19 GND (power), J2 GND (power), J8 GND (power), J10 GNDADC_0 (power), J12 GND (power), K5 GND (power), K7 GND (power), K11 GND (power), K13 GND (power), K15 GND (power), L8 GND (power), L12 GND (power), L18 GND (power), M1 GND (power), M7 GND (power), M11 GND (power), M13 GND (power), N4 GND (power), N8 GND (power), N10 GND (power), N12 GND (power), N14 GND (power), P7 GND (power), P9 GND (power), P11 GND (power), P13 GND (power), P17 GND (power), R8 GND (power), R12 GND (power), R20 GND (power), T3 GND (power), T7 GND (power), T13 GND (power), U6 GND (power), U16 GND (power), V9 GND (power), V19 GND (power), W2 GND (power), W12 GND (power), Y5 GND (power), Y15 GND (power)
part A text: BANK 13
part B text: BANK 34
part C text: BANK 35

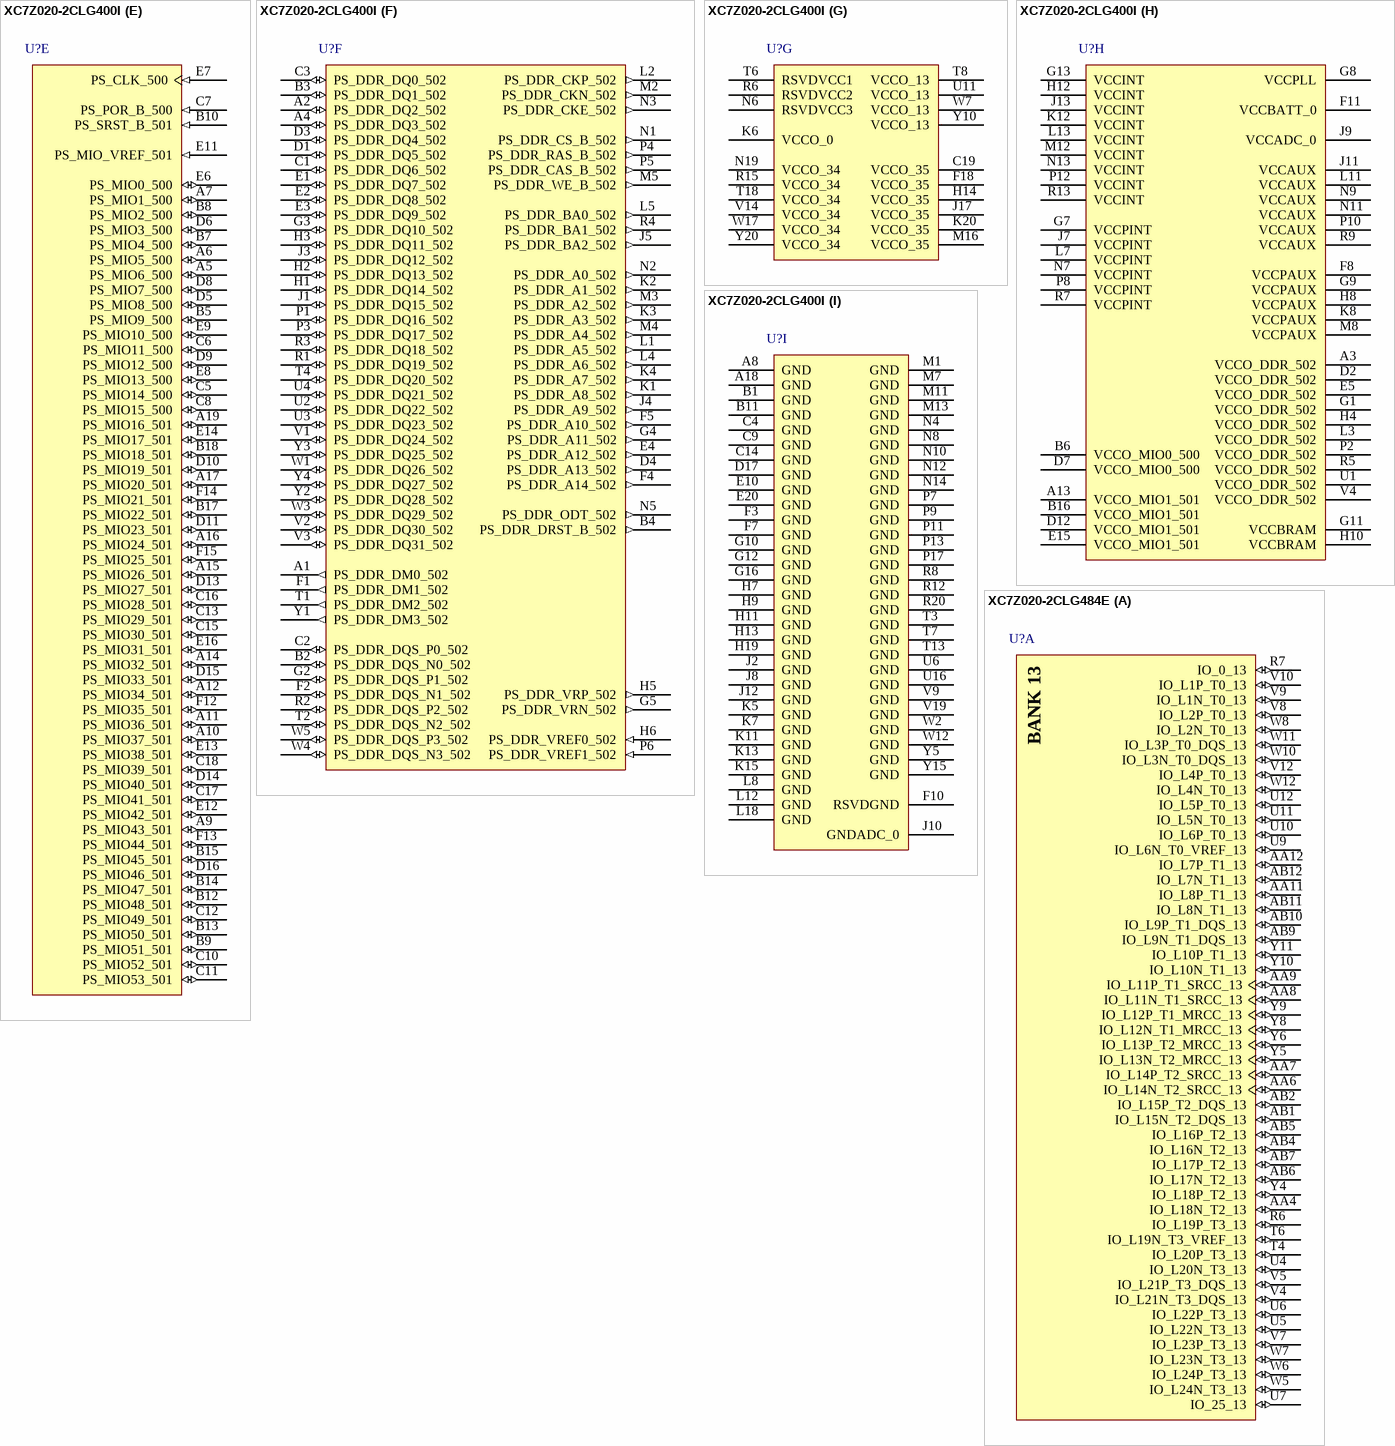
[diagram p15: symbols XC7Z020-2CLG400I to XC7Z020-2CLG484E]

## XC7Z020-2CLG400I
designator U?
733 MHz Zynq™-7000 AP SoC, 130 PS I/O, 125 FPGA I/O, 400-Ball BGA, Speed Grade 2, Industrial Grade, Pb-Free; Generic Part Number: XC7Z020; Manufacturer: Xilinx; PartNumber: XC7Z020-2CLG400I; Extensible Block RAM (# 36Kb Blocks): 560 KB (140); Flip Flops: 106400; LUTs: 53200; Speed Grade: -2; DatasheetVersion: v1.2; PackageVersion: Rev 1.1; PackageReference: CLG400; PackageDescription: Wire-Bond Chip-Scale BGA, Body 17 x 17 mm, 0.8 mm Pitch; RoHS: Pb-Free; Mounting Technology: Surface Mount; Code_JEDEC: MO-275-MMAA-1; ComponentLink1Description: Datasheet; ComponentLink1URL: http://www.xilinx.com/support/documentation/data_sheets/ds190-Zynq-7000-Overview.pdf; ComponentLink2Description: Package Specification; ComponentLink2URL: http://www.xilinx.com/support/documentation/user_guides/ug865-Zynq-7000-Pkg-Pinout.pdf; ComponentLink3Description: DC and AC Switching Characteristics; ComponentLink3URL: http://www.xilinx.com/support/documentation/data_sheets/ds187-XC7Z010-XC7Z020-Data-Sheet.pdf; ComponentLink4Description: Package File; ComponentLink4URL: http://www.xilinx.com/support/packagefiles/z7packages/xc7z020clg400pkg.txt; ComponentLink5Description: Packaging and Pinout; ComponentLink5URL: http://www.xilinx.com/support/documentation/user_guides/ug865-Zynq-7000-Pkg-Pinout.pdf; ComponentLink6Description: PCB and Layout Guide; ComponentLink6URL: http://www.xilinx.com/support/documentation/user_guides/ug483_7Series_PCB.pdf
footprint CLG400 (BGA, 400-Balls, Body 17x17mm, Pitch 0.8mm)
part A pins: T5 IO_L19P_T3_13 (io), T9 IO_L12P_T1_MRCC_13 (io), U5 IO_L19N_T3_VREF_13 (io), U7 IO_L11P_T1_SRCC_13 (io), U8 IO_L17N_T2_13 (io), U9 IO_L17P_T2_13 (io), U10 IO_L12N_T1_MRCC_13 (io), V5 IO_L6N_T0_VREF_13 (io), V6 IO_L22P_T3_13 (io), V7 IO_L11N_T1_SRCC_13 (io), V8 IO_L15P_T2_DQS_13 (io), V10 IO_L21N_T3_DQS_13 (io), V11 IO_L21P_T3_DQS_13 (io), W6 IO_L22N_T3_13 (io), W8 IO_L15N_T2_DQS_13 (io), W9 IO_L16N_T2_13 (io), W10 IO_L16P_T2_13 (io), W11 IO_L18P_T2_13 (io), Y6 IO_L13N_T2_MRCC_13 (io), Y7 IO_L13P_T2_MRCC_13 (io), Y8 IO_L14N_T2_SRCC_13 (io), Y9 IO_L14P_T2_SRCC_13 (io), Y11 IO_L18N_T2_13 (io), Y12 IO_L20P_T3_13 (io), Y13 IO_L20N_T3_13 (io)
part B pins: N17 IO_L23P_T3_34 (io), N18 IO_L13P_T2_MRCC_34 (io), N20 IO_L14P_T2_SRCC_34 (io), P14 IO_L6P_T0_34 (io), P15 IO_L24P_T3_34 (io), P16 IO_L24N_T3_34 (io), P18 IO_L23N_T3_34 (io), P19 IO_L13N_T2_MRCC_34 (io), P20 IO_L14N_T2_SRCC_34 (io), R14 IO_L6N_T0_VREF_34 (io), R16 IO_L19P_T3_34 (io), R17 IO_L19N_T3_VREF_34 (io), R18 IO_L20N_T3_34 (io), R19 IO_0_34 (io), T10 IO_L1N_T0_34 (io), T11 IO_L1P_T0_34 (io), T12 IO_L2P_T0_34 (io), T14 IO_L5P_T0_34 (io), T15 IO_L5N_T0_34 (io), T16 IO_L9P_T1_DQS_34 (io), T17 IO_L20P_T3_34 (io), T19 IO_25_34 (io), T20 IO_L15P_T2_DQS_34 (io), U12 IO_L2N_T0_34 (io), U13 IO_L3P_T0_DQS_PUDC_B_34 (io), U14 IO_L11P_T1_SRCC_34 (io), U15 IO_L11N_T1_SRCC_34 (io), U17 IO_L9N_T1_DQS_34 (io), U18 IO_L12P_T1_MRCC_34 (io), U19 IO_L12N_T1_MRCC_34 (io), U20 IO_L15N_T2_DQS_34 (io), V12 IO_L4P_T0_34 (io), V13 IO_L3N_T0_DQS_34 (io), V15 IO_L10P_T1_34 (io), V16 IO_L18P_T2_34 (io), V17 IO_L21P_T3_DQS_34 (io), V18 IO_L21N_T3_DQS_34 (io), V20 IO_L16P_T2_34 (io), W13 IO_L4N_T0_34 (io), W14 IO_L8P_T1_34 (io), W15 IO_L10N_T1_34 (io), W16 IO_L18N_T2_34 (io), W18 IO_L22P_T3_34 (io), W19 IO_L22N_T3_34 (io), W20 IO_L16N_T2_34 (io), Y14 IO_L8N_T1_34 (io), Y16 IO_L7P_T1_34 (io), Y17 IO_L7N_T1_34 (io), Y18 IO_L17P_T2_34 (io), Y19 IO_L17N_T2_34 (io)
part C pins: A20 IO_L2N_T0_AD8N_35 (io), B19 IO_L2P_T0_AD8P_35 (io), B20 IO_L1N_T0_AD0N_35 (io), C20 IO_L1P_T0_AD0P_35 (io), D18 IO_L3N_T0_DQS_AD1N_35 (io), D19 IO_L4P_T0_35 (io), D20 IO_L4N_T0_35 (io), E17 IO_L3P_T0_DQS_AD1P_35 (io), E18 IO_L5P_T0_AD9P_35 (io), E19 IO_L5N_T0_AD9N_35 (io), F16 IO_L6P_T0_35 (io), F17 IO_L6N_T0_VREF_35 (io), F19 IO_L15P_T2_DQS_AD12P_35 (io), F20 IO_L15N_T2_DQS_AD12N_35 (io), G14 IO_0_35 (io), G15 IO_L19N_T3_VREF_35 (io), G17 IO_L16P_T2_35 (io), G18 IO_L16N_T2_35 (io), G19 IO_L18P_T2_AD13P_35 (io), G20 IO_L18N_T2_AD13N_35 (io), H15 IO_L19P_T3_35 (io), H16 IO_L13P_T2_MRCC_35 (io), H17 IO_L13N_T2_MRCC_35 (io), H18 IO_L14N_T2_AD4N_SRCC_35 (io), H20 IO_L17N_T2_AD5N_35 (io), J14 IO_L20N_T3_AD6N_35 (io), J15 IO_25_35 (io), J16 IO_L24N_T3_AD15N_35 (io), J18 IO_L14P_T2_AD4P_SRCC_35 (io), J19 IO_L10N_T1_AD11N_35 (io), J20 IO_L17P_T2_AD5P_35 (io), K14 IO_L20P_T3_AD6P_35 (io), K16 IO_L24P_T3_AD15P_35 (io), K17 IO_L12P_T1_MRCC_35 (io), K18 IO_L12N_T1_MRCC_35 (io), K19 IO_L10P_T1_AD11P_35 (io), L14 IO_L22P_T3_AD7P_35 (io), L15 IO_L22N_T3_AD7N_35 (io), L16 IO_L11P_T1_SRCC_35 (io), L17 IO_L11N_T1_SRCC_35 (io), L19 IO_L9P_T1_DQS_AD3P_35 (io), L20 IO_L9N_T1_DQS_AD3N_35 (io), M14 IO_L23P_T3_35 (io), M15 IO_L23N_T3_35 (io), M17 IO_L8P_T1_AD10P_35 (io), M18 IO_L8N_T1_AD10N_35 (io), M19 IO_L7P_T1_AD2P_35 (io), M20 IO_L7N_T1_AD2N_35 (io), N15 IO_L21P_T3_DQS_AD14P_35 (io), N16 IO_L21N_T3_DQS_AD14N_35 (io)
part D pins: F6 TDO_0 (out), F9 TCK_0 (in), G6 TDI_0 (in), J6 TMS_0 (in), K9 VP_0 (in), K10 VREFN_0 (in), L6 PROGRAM_B_0 (in), L9 VREFP_0 (in), L10 VN_0 (in), M6 CFGBVS_0 (in), M9 DXP_0 (in), M10 DXN_0 (in), R10 INIT_B_0 (io), R11 DONE_0 (io)
part E pins: A5 PS_MIO6_500 (io), A6 PS_MIO5_500 (io), A7 PS_MIO1_500 (io), A9 PS_MIO43_501 (io), A10 PS_MIO37_501 (io), A11 PS_MIO36_501 (io), A12 PS_MIO34_501 (io), A14 PS_MIO32_501 (io), A15 PS_MIO26_501 (io), A16 PS_MIO24_501 (io), A17 PS_MIO20_501 (io), A19 PS_MIO16_501 (io), B5 PS_MIO9_500 (io), B7 PS_MIO4_500 (io), B8 PS_MIO2_500 (io), B9 PS_MIO51_501 (io), B10 PS_SRST_B_501 (in), B12 PS_MIO48_501 (io), B13 PS_MIO50_501 (io), B14 PS_MIO47_501 (io), B15 PS_MIO45_501 (io), B17 PS_MIO22_501 (io), B18 PS_MIO18_501 (io), C5 PS_MIO14_500 (io), C6 PS_MIO11_500 (io), C7 PS_POR_B_500 (in), C8 PS_MIO15_500 (io), C10 PS_MIO52_501 (io), C11 PS_MIO53_501 (io), C12 PS_MIO49_501 (io), C13 PS_MIO29_501 (io), C15 PS_MIO30_501 (io), C16 PS_MIO28_501 (io), C17 PS_MIO41_501 (io), C18 PS_MIO39_501 (io), D5 PS_MIO8_500 (io), D6 PS_MIO3_500 (io), D8 PS_MIO7_500 (io), D9 PS_MIO12_500 (io), D10 PS_MIO19_501 (io), D11 PS_MIO23_501 (io), D13 PS_MIO27_501 (io), D14 PS_MIO40_501 (io), D15 PS_MIO33_501 (io), D16 PS_MIO46_501 (io), E6 PS_MIO0_500 (io), E7 PS_CLK_500 (in), E8 PS_MIO13_500 (io), E9 PS_MIO10_500 (io), E11 PS_MIO_VREF_501 (in), E12 PS_MIO42_501 (io), E13 PS_MIO38_501 (io), E14 PS_MIO17_501 (io), E16 PS_MIO31_501 (io), F12 PS_MIO35_501 (io), F13 PS_MIO44_501 (io), F14 PS_MIO21_501 (io), F15 PS_MIO25_501 (io)
part F pins: A1 PS_DDR_DM0_502 (out), A2 PS_DDR_DQ2_502 (io), A4 PS_DDR_DQ3_502 (io), B2 PS_DDR_DQS_N0_502 (io), B3 PS_DDR_DQ1_502 (io), B4 PS_DDR_DRST_B_502 (out), C1 PS_DDR_DQ6_502 (io), C2 PS_DDR_DQS_P0_502 (io), C3 PS_DDR_DQ0_502 (io), D1 PS_DDR_DQ5_502 (io), D3 PS_DDR_DQ4_502 (io), D4 PS_DDR_A13_502 (out), E1 PS_DDR_DQ7_502 (io), E2 PS_DDR_DQ8_502 (io), E3 PS_DDR_DQ9_502 (io), E4 PS_DDR_A12_502 (out), F1 PS_DDR_DM1_502 (out), F2 PS_DDR_DQS_N1_502 (io), F4 PS_DDR_A14_502 (out), F5 PS_DDR_A10_502 (out), G2 PS_DDR_DQS_P1_502 (io), G3 PS_DDR_DQ10_502 (io), G4 PS_DDR_A11_502 (out), G5 PS_DDR_VRN_502 (out), H1 PS_DDR_DQ14_502 (io), H2 PS_DDR_DQ13_502 (io), H3 PS_DDR_DQ11_502 (io), H5 PS_DDR_VRP_502 (out), H6 PS_DDR_VREF0_502 (in), J1 PS_DDR_DQ15_502 (io), J3 PS_DDR_DQ12_502 (io), J4 PS_DDR_A9_502 (out), J5 PS_DDR_BA2_502 (out), K1 PS_DDR_A8_502 (out), K2 PS_DDR_A1_502 (out), K3 PS_DDR_A3_502 (out), K4 PS_DDR_A7_502 (out), L1 PS_DDR_A5_502 (out), L2 PS_DDR_CKP_502 (out), L4 PS_DDR_A6_502 (out), L5 PS_DDR_BA0_502 (out), M2 PS_DDR_CKN_502 (out), M3 PS_DDR_A2_502 (out), M4 PS_DDR_A4_502 (out), M5 PS_DDR_WE_B_502 (out), N1 PS_DDR_CS_B_502 (out), N2 PS_DDR_A0_502 (out), N3 PS_DDR_CKE_502 (out), N5 PS_DDR_ODT_502 (out), P1 PS_DDR_DQ16_502 (io), P3 PS_DDR_DQ17_502 (io), P4 PS_DDR_RAS_B_502 (out), P5 PS_DDR_CAS_B_502 (out), P6 PS_DDR_VREF1_502 (in), R1 PS_DDR_DQ19_502 (io), R2 PS_DDR_DQS_P2_502 (io), R3 PS_DDR_DQ18_502 (io), R4 PS_DDR_BA1_502 (out), T1 PS_DDR_DM2_502 (out), T2 PS_DDR_DQS_N2_502 (io), T4 PS_DDR_DQ20_502 (io), U2 PS_DDR_DQ22_502 (io), U3 PS_DDR_DQ23_502 (io), U4 PS_DDR_DQ21_502 (io), V1 PS_DDR_DQ24_502 (io), V2 PS_DDR_DQ30_502 (io), V3 PS_DDR_DQ31_502 (io), W1 PS_DDR_DQ26_502 (io), W3 PS_DDR_DQ29_502 (io), W4 PS_DDR_DQS_N3_502 (io), W5 PS_DDR_DQS_P3_502 (io), Y1 PS_DDR_DM3_502 (out), Y2 PS_DDR_DQ28_502 (io), Y3 PS_DDR_DQ25_502 (io), Y4 PS_DDR_DQ27_502 (io)
part G pins: C19 VCCO_35 (power), F18 VCCO_35 (power), H14 VCCO_35 (power), J17 VCCO_35 (power), K6 VCCO_0 (power), K20 VCCO_35 (power), M16 VCCO_35 (power), N6 RSVDVCC3 (power), N19 VCCO_34 (power), R6 RSVDVCC2 (power), R15 VCCO_34 (power), T6 RSVDVCC1 (power), T8 VCCO_13 (power), T18 VCCO_34 (power), U11 VCCO_13 (power), V14 VCCO_34 (power), W7 VCCO_13 (power), W17 VCCO_34 (power), Y10 VCCO_13 (power), Y20 VCCO_34 (power)
part H pins: A3 VCCO_DDR_502 (power), A13 VCCO_MIO1_501 (power), B6 VCCO_MIO0_500 (power), B16 VCCO_MIO1_501 (power), D2 VCCO_DDR_502 (power), D7 VCCO_MIO0_500 (power), D12 VCCO_MIO1_501 (power), E5 VCCO_DDR_502 (power), E15 VCCO_MIO1_501 (power), F8 VCCPAUX (power), F11 VCCBATT_0 (power), G1 VCCO_DDR_502 (power), G7 VCCPINT (power), G8 VCCPLL (power), G9 VCCPAUX (power), G11 VCCBRAM (power), G13 VCCINT (power), H4 VCCO_DDR_502 (power), H8 VCCPAUX (power), H10 VCCBRAM (power), H12 VCCINT (power), J7 VCCPINT (power), J9 VCCADC_0 (power), J11 VCCAUX (power), J13 VCCINT (power), K8 VCCPAUX (power), K12 VCCINT (power), L3 VCCO_DDR_502 (power), L7 VCCPINT (power), L11 VCCAUX (power), L13 VCCINT (power), M8 VCCPAUX (power), M12 VCCINT (power), N7 VCCPINT (power), N9 VCCAUX (power), N11 VCCAUX (power), N13 VCCINT (power), P2 VCCO_DDR_502 (power), P8 VCCPINT (power), P10 VCCAUX (power), P12 VCCINT (power), R5 VCCO_DDR_502 (power), R7 VCCPINT (power), R9 VCCAUX (power), R13 VCCINT (power), U1 VCCO_DDR_502 (power), V4 VCCO_DDR_502 (power)
part I pins: A8 GND (power), A18 GND (power), B1 GND (power), B11 GND (power), C4 GND (power), C9 GND (power), C14 GND (power), D17 GND (power), E10 GND (power), E20 GND (power), F3 GND (power), F7 GND (power), F10 RSVDGND (power), G10 GND (power), G12 GND (power), G16 GND (power), H7 GND (power), H9 GND (power), H11 GND (power), H13 GND (power), H19 GND (power), J2 GND (power), J8 GND (power), J10 GNDADC_0 (power), J12 GND (power), K5 GND (power), K7 GND (power), K11 GND (power), K13 GND (power), K15 GND (power), L8 GND (power), L12 GND (power), L18 GND (power), M1 GND (power), M7 GND (power), M11 GND (power), M13 GND (power), N4 GND (power), N8 GND (power), N10 GND (power), N12 GND (power), N14 GND (power), P7 GND (power), P9 GND (power), P11 GND (power), P13 GND (power), P17 GND (power), R8 GND (power), R12 GND (power), R20 GND (power), T3 GND (power), T7 GND (power), T13 GND (power), U6 GND (power), U16 GND (power), V9 GND (power), V19 GND (power), W2 GND (power), W12 GND (power), Y5 GND (power), Y15 GND (power)
part A text: BANK 13
part B text: BANK 34
part C text: BANK 35

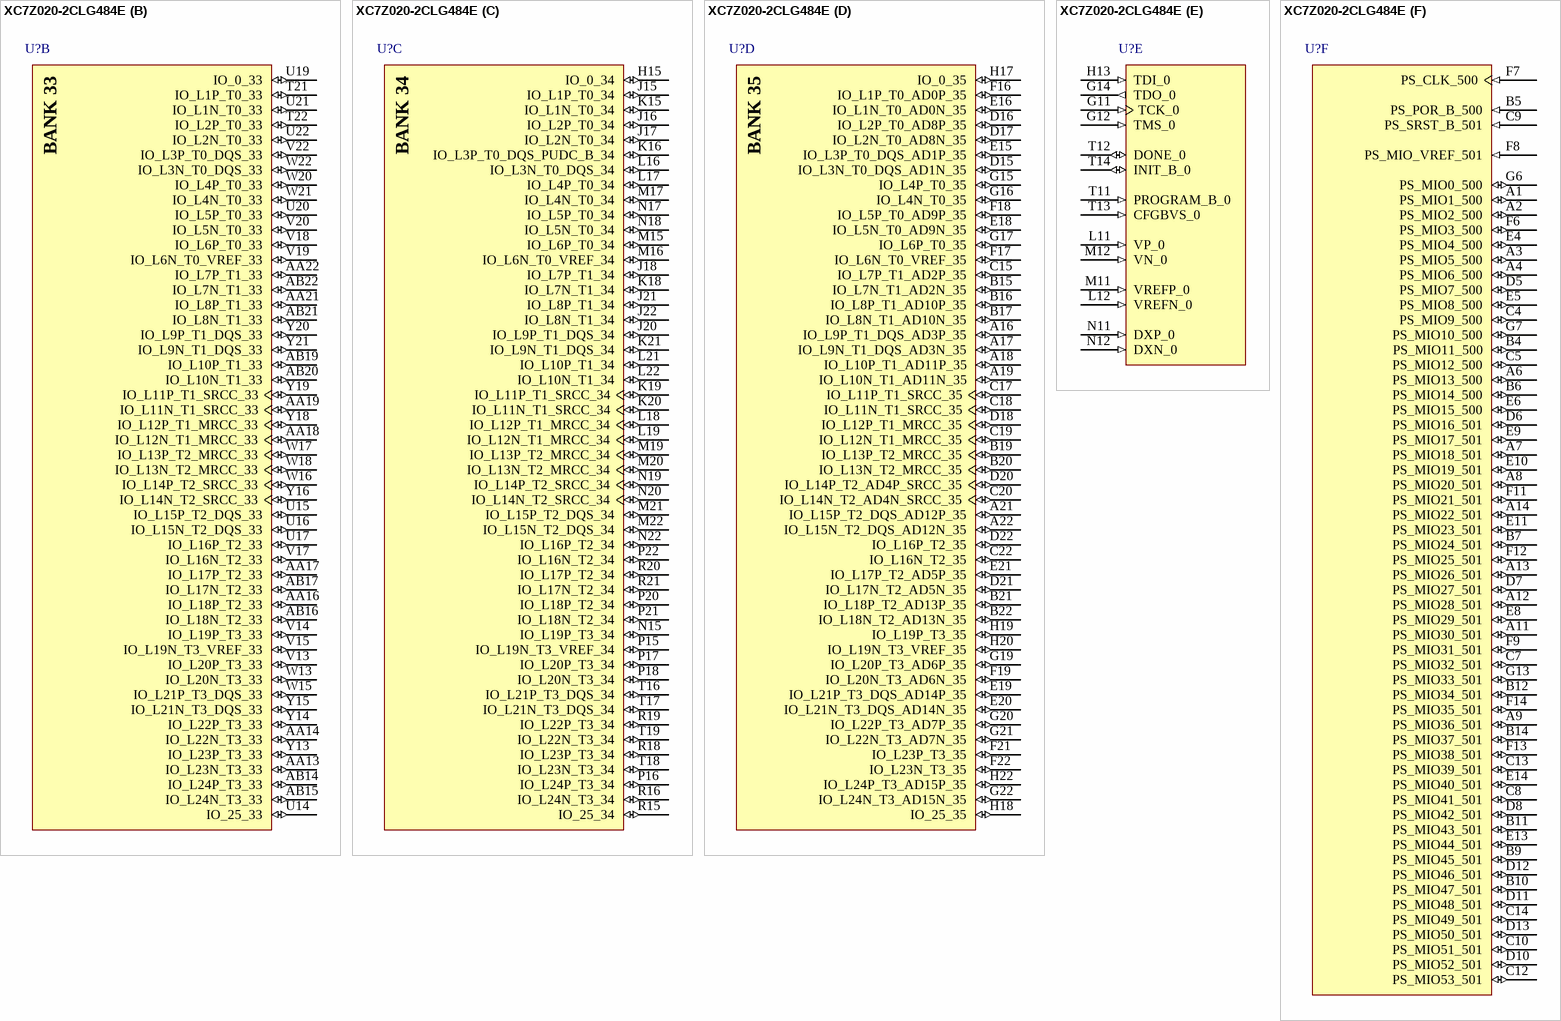
[diagram p16: symbol XC7Z020-2CLG484E]

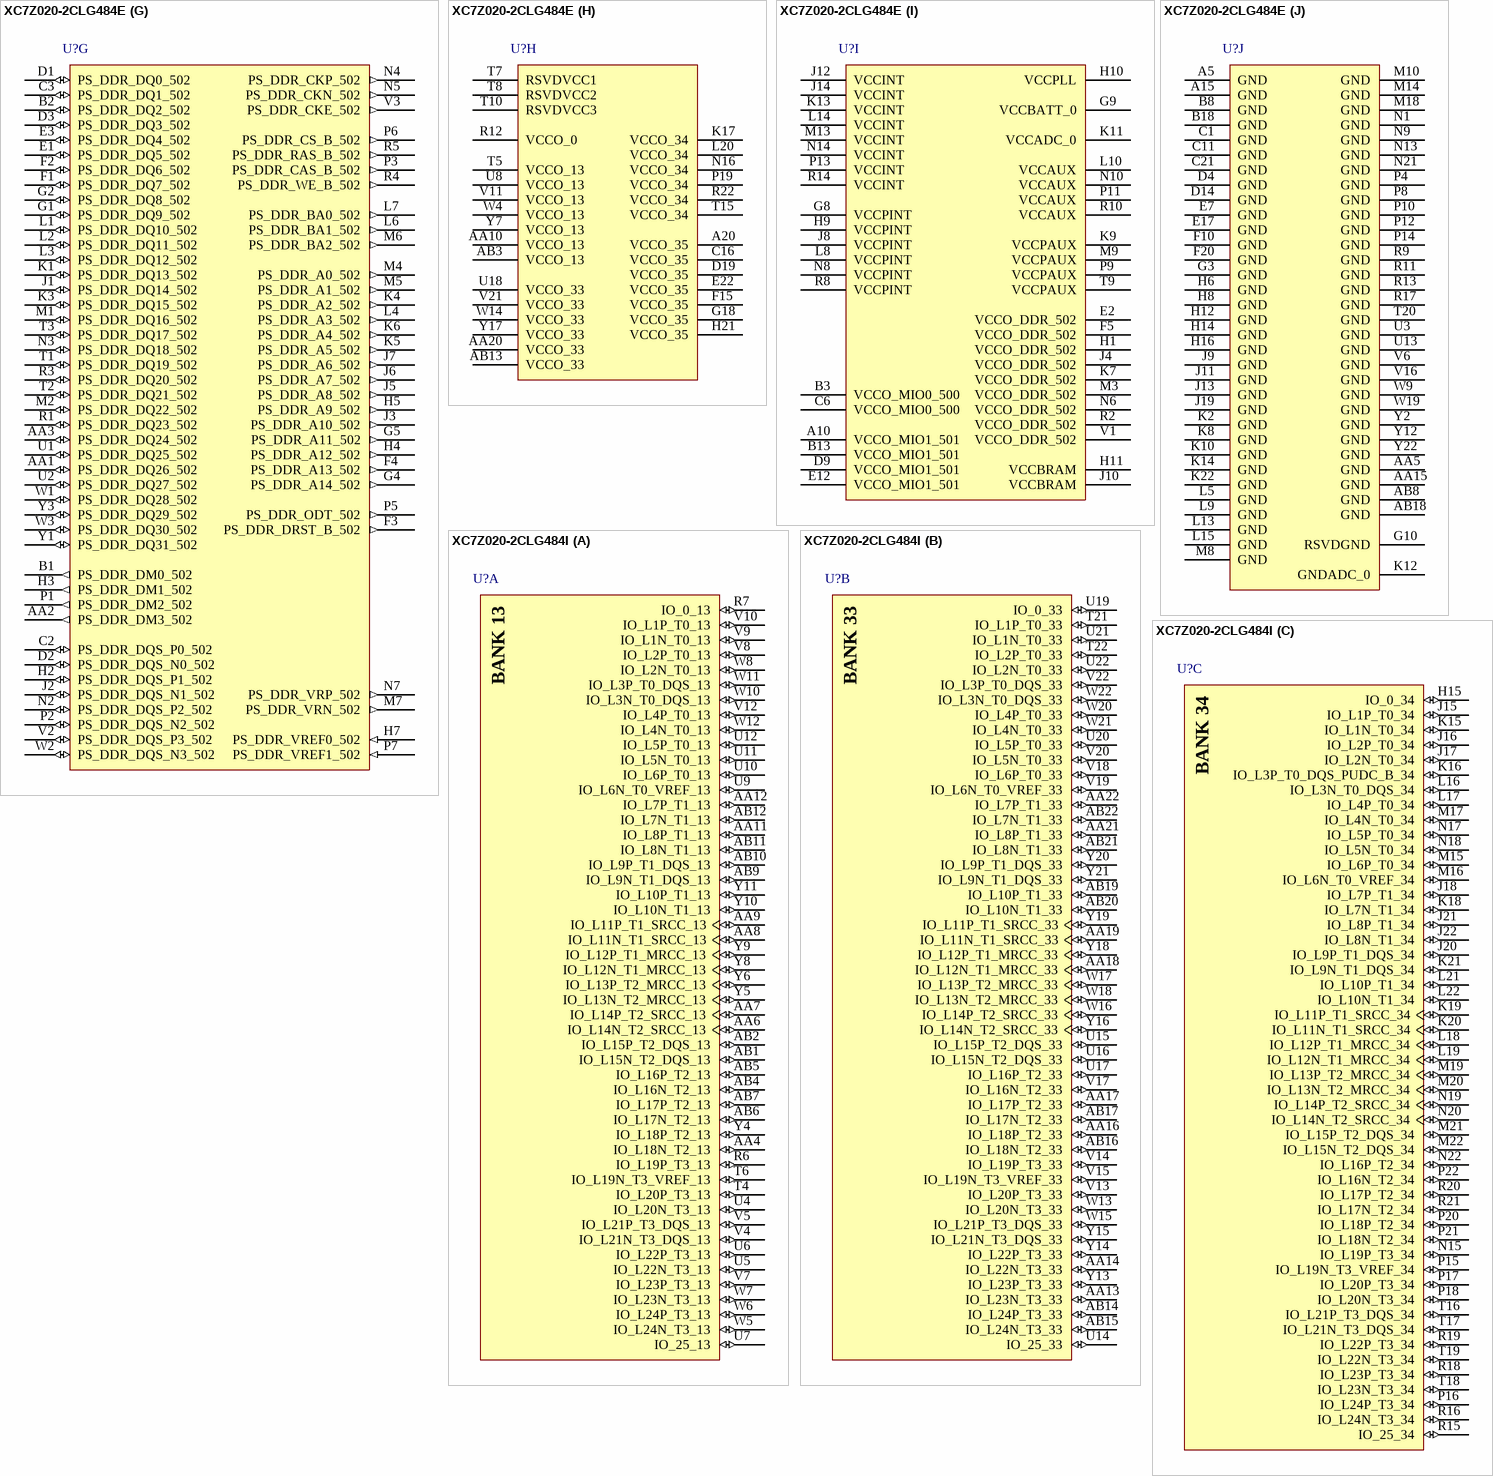
[diagram p17: symbols XC7Z020-2CLG484E to XC7Z020-2CLG484I]

## XC7Z020-2CLG484E
designator U?
733 MHz Zynq™-7000 AP SoC, 130 PS I/O, 200 FPGA I/O, 484-Ball BGA, Speed Grade 2, Extended Grade, Pb-Free; Generic Part Number: XC7Z020; Manufacturer: Xilinx; PartNumber: XC7Z020-2CLG484E; Extensible Block RAM (# 36Kb Blocks): 560 KB (140); Flip Flops: 106400; LUTs: 53200; Speed Grade: -2; DatasheetVersion: v1.2; PackageVersion: Rev 1.1; PackageReference: CLG484; PackageDescription: Wire-Bond Chip-Scale BGA, Body 19 x 19 mm, 0.8 mm Pitch; RoHS: Pb-Free; Mounting Technology: Surface Mount; Code_JEDEC: MO-275-PPAA-2; ComponentLink1Description: Datasheet; ComponentLink1URL: http://www.xilinx.com/support/documentation/data_sheets/ds190-Zynq-7000-Overview.pdf; ComponentLink2Description: Package Specification; ComponentLink2URL: http://www.xilinx.com/support/documentation/user_guides/ug865-Zynq-7000-Pkg-Pinout.pdf; ComponentLink3Description: DC and AC Switching Characteristics; ComponentLink3URL: http://www.xilinx.com/support/documentation/data_sheets/ds187-XC7Z010-XC7Z020-Data-Sheet.pdf; ComponentLink4Description: Package File; ComponentLink4URL: http://www.xilinx.com/support/packagefiles/z7packages/xc7z020clg484pkg.txt; ComponentLink5Description: Packaging and Pinout; ComponentLink5URL: http://www.xilinx.com/support/documentation/user_guides/ug865-Zynq-7000-Pkg-Pinout.pdf; ComponentLink6Description: PCB and Layout Guide; ComponentLink6URL: http://www.xilinx.com/support/documentation/user_guides/ug483_7Series_PCB.pdf
footprint CLG484 (BGA, 484-Balls, Body 19x19mm, Pitch 0.8mm)
part A pins: AA4 IO_L18N_T2_13 (io), AA6 IO_L14N_T2_SRCC_13 (io), AA7 IO_L14P_T2_SRCC_13 (io), AA8 IO_L11N_T1_SRCC_13 (io), AA9 IO_L11P_T1_SRCC_13 (io), AA11 IO_L8P_T1_13 (io), AA12 IO_L7P_T1_13 (io), AB1 IO_L15N_T2_DQS_13 (io), AB2 IO_L15P_T2_DQS_13 (io), AB4 IO_L16N_T2_13 (io), AB5 IO_L16P_T2_13 (io), AB6 IO_L17N_T2_13 (io), AB7 IO_L17P_T2_13 (io), AB9 IO_L9N_T1_DQS_13 (io), AB10 IO_L9P_T1_DQS_13 (io), AB11 IO_L8N_T1_13 (io), AB12 IO_L7N_T1_13 (io), R6 IO_L19P_T3_13 (io), R7 IO_0_13 (io), T4 IO_L20P_T3_13 (io), T6 IO_L19N_T3_VREF_13 (io), U4 IO_L20N_T3_13 (io), U5 IO_L22N_T3_13 (io), U6 IO_L22P_T3_13 (io), U7 IO_25_13 (io), U9 IO_L6N_T0_VREF_13 (io), U10 IO_L6P_T0_13 (io), U11 IO_L5N_T0_13 (io), U12 IO_L5P_T0_13 (io), V4 IO_L21N_T3_DQS_13 (io), V5 IO_L21P_T3_DQS_13 (io), V7 IO_L23P_T3_13 (io), V8 IO_L2P_T0_13 (io), V9 IO_L1N_T0_13 (io), V10 IO_L1P_T0_13 (io), V12 IO_L4P_T0_13 (io), W5 IO_L24N_T3_13 (io), W6 IO_L24P_T3_13 (io), W7 IO_L23N_T3_13 (io), W8 IO_L2N_T0_13 (io), W10 IO_L3N_T0_DQS_13 (io), W11 IO_L3P_T0_DQS_13 (io), W12 IO_L4N_T0_13 (io), Y4 IO_L18P_T2_13 (io), Y5 IO_L13N_T2_MRCC_13 (io), Y6 IO_L13P_T2_MRCC_13 (io), Y8 IO_L12N_T1_MRCC_13 (io), Y9 IO_L12P_T1_MRCC_13 (io), Y10 IO_L10N_T1_13 (io), Y11 IO_L10P_T1_13 (io)
part B pins: AA13 IO_L23N_T3_33 (io), AA14 IO_L22N_T3_33 (io), AA16 IO_L18P_T2_33 (io), AA17 IO_L17P_T2_33 (io), AA18 IO_L12N_T1_MRCC_33 (io), AA19 IO_L11N_T1_SRCC_33 (io), AA21 IO_L8P_T1_33 (io), AA22 IO_L7P_T1_33 (io), AB14 IO_L24P_T3_33 (io), AB15 IO_L24N_T3_33 (io), AB16 IO_L18N_T2_33 (io), AB17 IO_L17N_T2_33 (io), AB19 IO_L10P_T1_33 (io), AB20 IO_L10N_T1_33 (io), AB21 IO_L8N_T1_33 (io), AB22 IO_L7N_T1_33 (io), T21 IO_L1P_T0_33 (io), T22 IO_L2P_T0_33 (io), U14 IO_25_33 (io), U15 IO_L15P_T2_DQS_33 (io), U16 IO_L15N_T2_DQS_33 (io), U17 IO_L16P_T2_33 (io), U19 IO_0_33 (io), U20 IO_L5P_T0_33 (io), U21 IO_L1N_T0_33 (io), U22 IO_L2N_T0_33 (io), V13 IO_L20P_T3_33 (io), V14 IO_L19P_T3_33 (io), V15 IO_L19N_T3_VREF_33 (io), V17 IO_L16N_T2_33 (io), V18 IO_L6P_T0_33 (io), V19 IO_L6N_T0_VREF_33 (io), V20 IO_L5N_T0_33 (io), V22 IO_L3P_T0_DQS_33 (io), W13 IO_L20N_T3_33 (io), W15 IO_L21P_T3_DQS_33 (io), W16 IO_L14P_T2_SRCC_33 (io), W17 IO_L13P_T2_MRCC_33 (io), W18 IO_L13N_T2_MRCC_33 (io), W20 IO_L4P_T0_33 (io), W21 IO_L4N_T0_33 (io), W22 IO_L3N_T0_DQS_33 (io), Y13 IO_L23P_T3_33 (io), Y14 IO_L22P_T3_33 (io), Y15 IO_L21N_T3_DQS_33 (io), Y16 IO_L14N_T2_SRCC_33 (io), Y18 IO_L12P_T1_MRCC_33 (io), Y19 IO_L11P_T1_SRCC_33 (io), Y20 IO_L9P_T1_DQS_33 (io), Y21 IO_L9N_T1_DQS_33 (io)
part C pins: H15 IO_0_34 (io), J15 IO_L1P_T0_34 (io), J16 IO_L2P_T0_34 (io), J17 IO_L2N_T0_34 (io), J18 IO_L7P_T1_34 (io), J20 IO_L9P_T1_DQS_34 (io), J21 IO_L8P_T1_34 (io), J22 IO_L8N_T1_34 (io), K15 IO_L1N_T0_34 (io), K16 IO_L3P_T0_DQS_PUDC_B_34 (io), K18 IO_L7N_T1_34 (io), K19 IO_L11P_T1_SRCC_34 (io), K20 IO_L11N_T1_SRCC_34 (io), K21 IO_L9N_T1_DQS_34 (io), L16 IO_L3N_T0_DQS_34 (io), L17 IO_L4P_T0_34 (io), L18 IO_L12P_T1_MRCC_34 (io), L19 IO_L12N_T1_MRCC_34 (io), L21 IO_L10P_T1_34 (io), L22 IO_L10N_T1_34 (io), M15 IO_L6P_T0_34 (io), M16 IO_L6N_T0_VREF_34 (io), M17 IO_L4N_T0_34 (io), M19 IO_L13P_T2_MRCC_34 (io), M20 IO_L13N_T2_MRCC_34 (io), M21 IO_L15P_T2_DQS_34 (io), M22 IO_L15N_T2_DQS_34 (io), N15 IO_L19P_T3_34 (io), N17 IO_L5P_T0_34 (io), N18 IO_L5N_T0_34 (io), N19 IO_L14P_T2_SRCC_34 (io), N20 IO_L14N_T2_SRCC_34 (io), N22 IO_L16P_T2_34 (io), P15 IO_L19N_T3_VREF_34 (io), P16 IO_L24P_T3_34 (io), P17 IO_L20P_T3_34 (io), P18 IO_L20N_T3_34 (io), P20 IO_L18P_T2_34 (io), P21 IO_L18N_T2_34 (io), P22 IO_L16N_T2_34 (io), R15 IO_25_34 (io), R16 IO_L24N_T3_34 (io), R18 IO_L23P_T3_34 (io), R19 IO_L22P_T3_34 (io), R20 IO_L17P_T2_34 (io), R21 IO_L17N_T2_34 (io), T16 IO_L21P_T3_DQS_34 (io), T17 IO_L21N_T3_DQS_34 (io), T18 IO_L23N_T3_34 (io), T19 IO_L22N_T3_34 (io)
part D pins: A16 IO_L9P_T1_DQS_AD3P_35 (io), A17 IO_L9N_T1_DQS_AD3N_35 (io), A18 IO_L10P_T1_AD11P_35 (io), A19 IO_L10N_T1_AD11N_35 (io), A21 IO_L15P_T2_DQS_AD12P_35 (io), A22 IO_L15N_T2_DQS_AD12N_35 (io), B15 IO_L7N_T1_AD2N_35 (io), B16 IO_L8P_T1_AD10P_35 (io), B17 IO_L8N_T1_AD10N_35 (io), B19 IO_L13P_T2_MRCC_35 (io), B20 IO_L13N_T2_MRCC_35 (io), B21 IO_L18P_T2_AD13P_35 (io), B22 IO_L18N_T2_AD13N_35 (io), C15 IO_L7P_T1_AD2P_35 (io), C17 IO_L11P_T1_SRCC_35 (io), C18 IO_L11N_T1_SRCC_35 (io), C19 IO_L12N_T1_MRCC_35 (io), C20 IO_L14N_T2_AD4N_SRCC_35 (io), C22 IO_L16N_T2_35 (io), D15 IO_L3N_T0_DQS_AD1N_35 (io), D16 IO_L2P_T0_AD8P_35 (io), D17 IO_L2N_T0_AD8N_35 (io), D18 IO_L12P_T1_MRCC_35 (io), D20 IO_L14P_T2_AD4P_SRCC_35 (io), D21 IO_L17N_T2_AD5N_35 (io), D22 IO_L16P_T2_35 (io), E15 IO_L3P_T0_DQS_AD1P_35 (io), E16 IO_L1N_T0_AD0N_35 (io), E18 IO_L5N_T0_AD9N_35 (io), E19 IO_L21P_T3_DQS_AD14P_35 (io), E20 IO_L21N_T3_DQS_AD14N_35 (io), E21 IO_L17P_T2_AD5P_35 (io), F16 IO_L1P_T0_AD0P_35 (io), F17 IO_L6N_T0_VREF_35 (io), F18 IO_L5P_T0_AD9P_35 (io), F19 IO_L20N_T3_AD6N_35 (io), F21 IO_L23P_T3_35 (io), F22 IO_L23N_T3_35 (io), G15 IO_L4P_T0_35 (io), G16 IO_L4N_T0_35 (io), G17 IO_L6P_T0_35 (io), G19 IO_L20P_T3_AD6P_35 (io), G20 IO_L22P_T3_AD7P_35 (io), G21 IO_L22N_T3_AD7N_35 (io), G22 IO_L24N_T3_AD15N_35 (io), H17 IO_0_35 (io), H18 IO_25_35 (io), H19 IO_L19P_T3_35 (io), H20 IO_L19N_T3_VREF_35 (io), H22 IO_L24P_T3_AD15P_35 (io)
part E pins: G11 TCK_0 (in), G12 TMS_0 (in), G14 TDO_0 (out), H13 TDI_0 (in), L11 VP_0 (in), L12 VREFN_0 (in), M11 VREFP_0 (in), M12 VN_0 (in), N11 DXP_0 (in), N12 DXN_0 (in), T11 PROGRAM_B_0 (in), T12 DONE_0 (io), T13 CFGBVS_0 (in), T14 INIT_B_0 (io)
part F pins: A1 PS_MIO1_500 (io), A2 PS_MIO2_500 (io), A3 PS_MIO5_500 (io), A4 PS_MIO6_500 (io), A6 PS_MIO13_500 (io), A7 PS_MIO18_501 (io), A8 PS_MIO20_501 (io), A9 PS_MIO36_501 (io), A11 PS_MIO30_501 (io), A12 PS_MIO28_501 (io), A13 PS_MIO26_501 (io), A14 PS_MIO22_501 (io), B4 PS_MIO11_500 (io), B5 PS_POR_B_500 (in), B6 PS_MIO14_500 (io), B7 PS_MIO24_501 (io), B9 PS_MIO45_501 (io), B10 PS_MIO47_501 (io), B11 PS_MIO43_501 (io), B12 PS_MIO34_501 (io), B14 PS_MIO37_501 (io), C4 PS_MIO9_500 (io), C5 PS_MIO12_500 (io), C7 PS_MIO32_501 (io), C8 PS_MIO41_501 (io), C9 PS_SRST_B_501 (in), C10 PS_MIO51_501 (io), C12 PS_MIO53_501 (io), C13 PS_MIO39_501 (io), C14 PS_MIO49_501 (io), D5 PS_MIO7_500 (io), D6 PS_MIO16_501 (io), D7 PS_MIO27_501 (io), D8 PS_MIO42_501 (io), D10 PS_MIO52_501 (io), D11 PS_MIO48_501 (io), D12 PS_MIO46_501 (io), D13 PS_MIO50_501 (io), E4 PS_MIO4_500 (io), E5 PS_MIO8_500 (io), E6 PS_MIO15_500 (io), E8 PS_MIO29_501 (io), E9 PS_MIO17_501 (io), E10 PS_MIO19_501 (io), E11 PS_MIO23_501 (io), E13 PS_MIO44_501 (io), E14 PS_MIO40_501 (io), F6 PS_MIO3_500 (io), F7 PS_CLK_500 (in), F8 PS_MIO_VREF_501 (in), F9 PS_MIO31_501 (io), F11 PS_MIO21_501 (io), F12 PS_MIO25_501 (io), F13 PS_MIO38_501 (io), F14 PS_MIO35_501 (io), G6 PS_MIO0_500 (io), G7 PS_MIO10_500 (io), G13 PS_MIO33_501 (io)
part G pins: AA1 PS_DDR_DQ26_502 (io), AA2 PS_DDR_DM3_502 (out), AA3 PS_DDR_DQ24_502 (io), B1 PS_DDR_DM0_502 (out), B2 PS_DDR_DQ2_502 (io), C2 PS_DDR_DQS_P0_502 (io), C3 PS_DDR_DQ1_502 (io), D1 PS_DDR_DQ0_502 (io), D2 PS_DDR_DQS_N0_502 (io), D3 PS_DDR_DQ3_502 (io), E1 PS_DDR_DQ5_502 (io), E3 PS_DDR_DQ4_502 (io), F1 PS_DDR_DQ7_502 (io), F2 PS_DDR_DQ6_502 (io), F3 PS_DDR_DRST_B_502 (out), F4 PS_DDR_A13_502 (out), G1 PS_DDR_DQ9_502 (io), G2 PS_DDR_DQ8_502 (io), G4 PS_DDR_A14_502 (out), G5 PS_DDR_A11_502 (out), H2 PS_DDR_DQS_P1_502 (io), H3 PS_DDR_DM1_502 (out), H4 PS_DDR_A12_502 (out), H5 PS_DDR_A9_502 (out), H7 PS_DDR_VREF0_502 (in), J1 PS_DDR_DQ14_502 (io), J2 PS_DDR_DQS_N1_502 (io), J3 PS_DDR_A10_502 (out), J5 PS_DDR_A8_502 (out), J6 PS_DDR_A7_502 (out), J7 PS_DDR_A6_502 (out), K1 PS_DDR_DQ13_502 (io), K3 PS_DDR_DQ15_502 (io), K4 PS_DDR_A2_502 (out), K5 PS_DDR_A5_502 (out), K6 PS_DDR_A4_502 (out), L1 PS_DDR_DQ10_502 (io), L2 PS_DDR_DQ11_502 (io), L3 PS_DDR_DQ12_502 (io), L4 PS_DDR_A3_502 (out), L6 PS_DDR_BA1_502 (out), L7 PS_DDR_BA0_502 (out), M1 PS_DDR_DQ16_502 (io), M2 PS_DDR_DQ22_502 (io), M4 PS_DDR_A0_502 (out), M5 PS_DDR_A1_502 (out), M6 PS_DDR_BA2_502 (out), M7 PS_DDR_VRN_502 (out), N2 PS_DDR_DQS_P2_502 (io), N3 PS_DDR_DQ18_502 (io), N4 PS_DDR_CKP_502 (out), N5 PS_DDR_CKN_502 (out), N7 PS_DDR_VRP_502 (out), P1 PS_DDR_DM2_502 (out), P2 PS_DDR_DQS_N2_502 (io), P3 PS_DDR_CAS_B_502 (out), P5 PS_DDR_ODT_502 (out), P6 PS_DDR_CS_B_502 (out), P7 PS_DDR_VREF1_502 (in), R1 PS_DDR_DQ23_502 (io), R3 PS_DDR_DQ20_502 (io), R4 PS_DDR_WE_B_502 (out), R5 PS_DDR_RAS_B_502 (out), T1 PS_DDR_DQ19_502 (io), T2 PS_DDR_DQ21_502 (io), T3 PS_DDR_DQ17_502 (io), U1 PS_DDR_DQ25_502 (io), U2 PS_DDR_DQ27_502 (io), V2 PS_DDR_DQS_P3_502 (io), V3 PS_DDR_CKE_502 (out), W1 PS_DDR_DQ28_502 (io), W2 PS_DDR_DQS_N3_502 (io), W3 PS_DDR_DQ30_502 (io), Y1 PS_DDR_DQ31_502 (io), Y3 PS_DDR_DQ29_502 (io)
part H pins: A20 VCCO_35 (power), AA10 VCCO_13 (power), AA20 VCCO_33 (power), AB3 VCCO_13 (power), AB13 VCCO_33 (power), C16 VCCO_35 (power), D19 VCCO_35 (power), E22 VCCO_35 (power), F15 VCCO_35 (power), G18 VCCO_35 (power), H21 VCCO_35 (power), K17 VCCO_34 (power), L20 VCCO_34 (power), N16 VCCO_34 (power), P19 VCCO_34 (power), R12 VCCO_0 (power), R22 VCCO_34 (power), T5 VCCO_13 (power), T7 RSVDVCC1 (power), T8 RSVDVCC2 (power), T10 RSVDVCC3 (power), T15 VCCO_34 (power), U8 VCCO_13 (power), U18 VCCO_33 (power), V11 VCCO_13 (power), V21 VCCO_33 (power), W4 VCCO_13 (power), W14 VCCO_33 (power), Y7 VCCO_13 (power), Y17 VCCO_33 (power)
part I pins: A10 VCCO_MIO1_501 (power), B3 VCCO_MIO0_500 (power), B13 VCCO_MIO1_501 (power), C6 VCCO_MIO0_500 (power), D9 VCCO_MIO1_501 (power), E2 VCCO_DDR_502 (power), E12 VCCO_MIO1_501 (power), F5 VCCO_DDR_502 (power), G8 VCCPINT (power), G9 VCCBATT_0 (power), H1 VCCO_DDR_502 (power), H9 VCCPINT (power), H10 VCCPLL (power), H11 VCCBRAM (power), J4 VCCO_DDR_502 (power), J8 VCCPINT (power), J10 VCCBRAM (power), J12 VCCINT (power), J14 VCCINT (power), K7 VCCO_DDR_502 (power), K9 VCCPAUX (power), K11 VCCADC_0 (power), K13 VCCINT (power), L8 VCCPINT (power), L10 VCCAUX (power), L14 VCCINT (power), M3 VCCO_DDR_502 (power), M9 VCCPAUX (power), M13 VCCINT (power), N6 VCCO_DDR_502 (power), N8 VCCPINT (power), N10 VCCAUX (power), N14 VCCINT (power), P9 VCCPAUX (power), P11 VCCAUX (power), P13 VCCINT (power), R2 VCCO_DDR_502 (power), R8 VCCPINT (power), R10 VCCAUX (power), R14 VCCINT (power), T9 VCCPAUX (power), V1 VCCO_DDR_502 (power)
part J pins: A5 GND (power), A15 GND (power), AA5 GND (power), AA15 GND (power), AB8 GND (power), AB18 GND (power), B8 GND (power), B18 GND (power), C1 GND (power), C11 GND (power), C21 GND (power), D4 GND (power), D14 GND (power), E7 GND (power), E17 GND (power), F10 GND (power), F20 GND (power), G3 GND (power), G10 RSVDGND (power), H6 GND (power), H8 GND (power), H12 GND (power), H14 GND (power), H16 GND (power), J9 GND (power), J11 GND (power), J13 GND (power), J19 GND (power), K2 GND (power), K8 GND (power), K10 GND (power), K12 GNDADC_0 (power), K14 GND (power), K22 GND (power), L5 GND (power), L9 GND (power), L13 GND (power), L15 GND (power), M8 GND (power), M10 GND (power), M14 GND (power), M18 GND (power), N1 GND (power), N9 GND (power), N13 GND (power), N21 GND (power), P4 GND (power), P8 GND (power), P10 GND (power), P12 GND (power), P14 GND (power), R9 GND (power), R11 GND (power), R13 GND (power), R17 GND (power), T20 GND (power), U3 GND (power), U13 GND (power), V6 GND (power), V16 GND (power), W9 GND (power), W19 GND (power), Y2 GND (power), Y12 GND (power), Y22 GND (power)
part A text: BANK 13
part B text: BANK 33
part C text: BANK 34
part D text: BANK 35

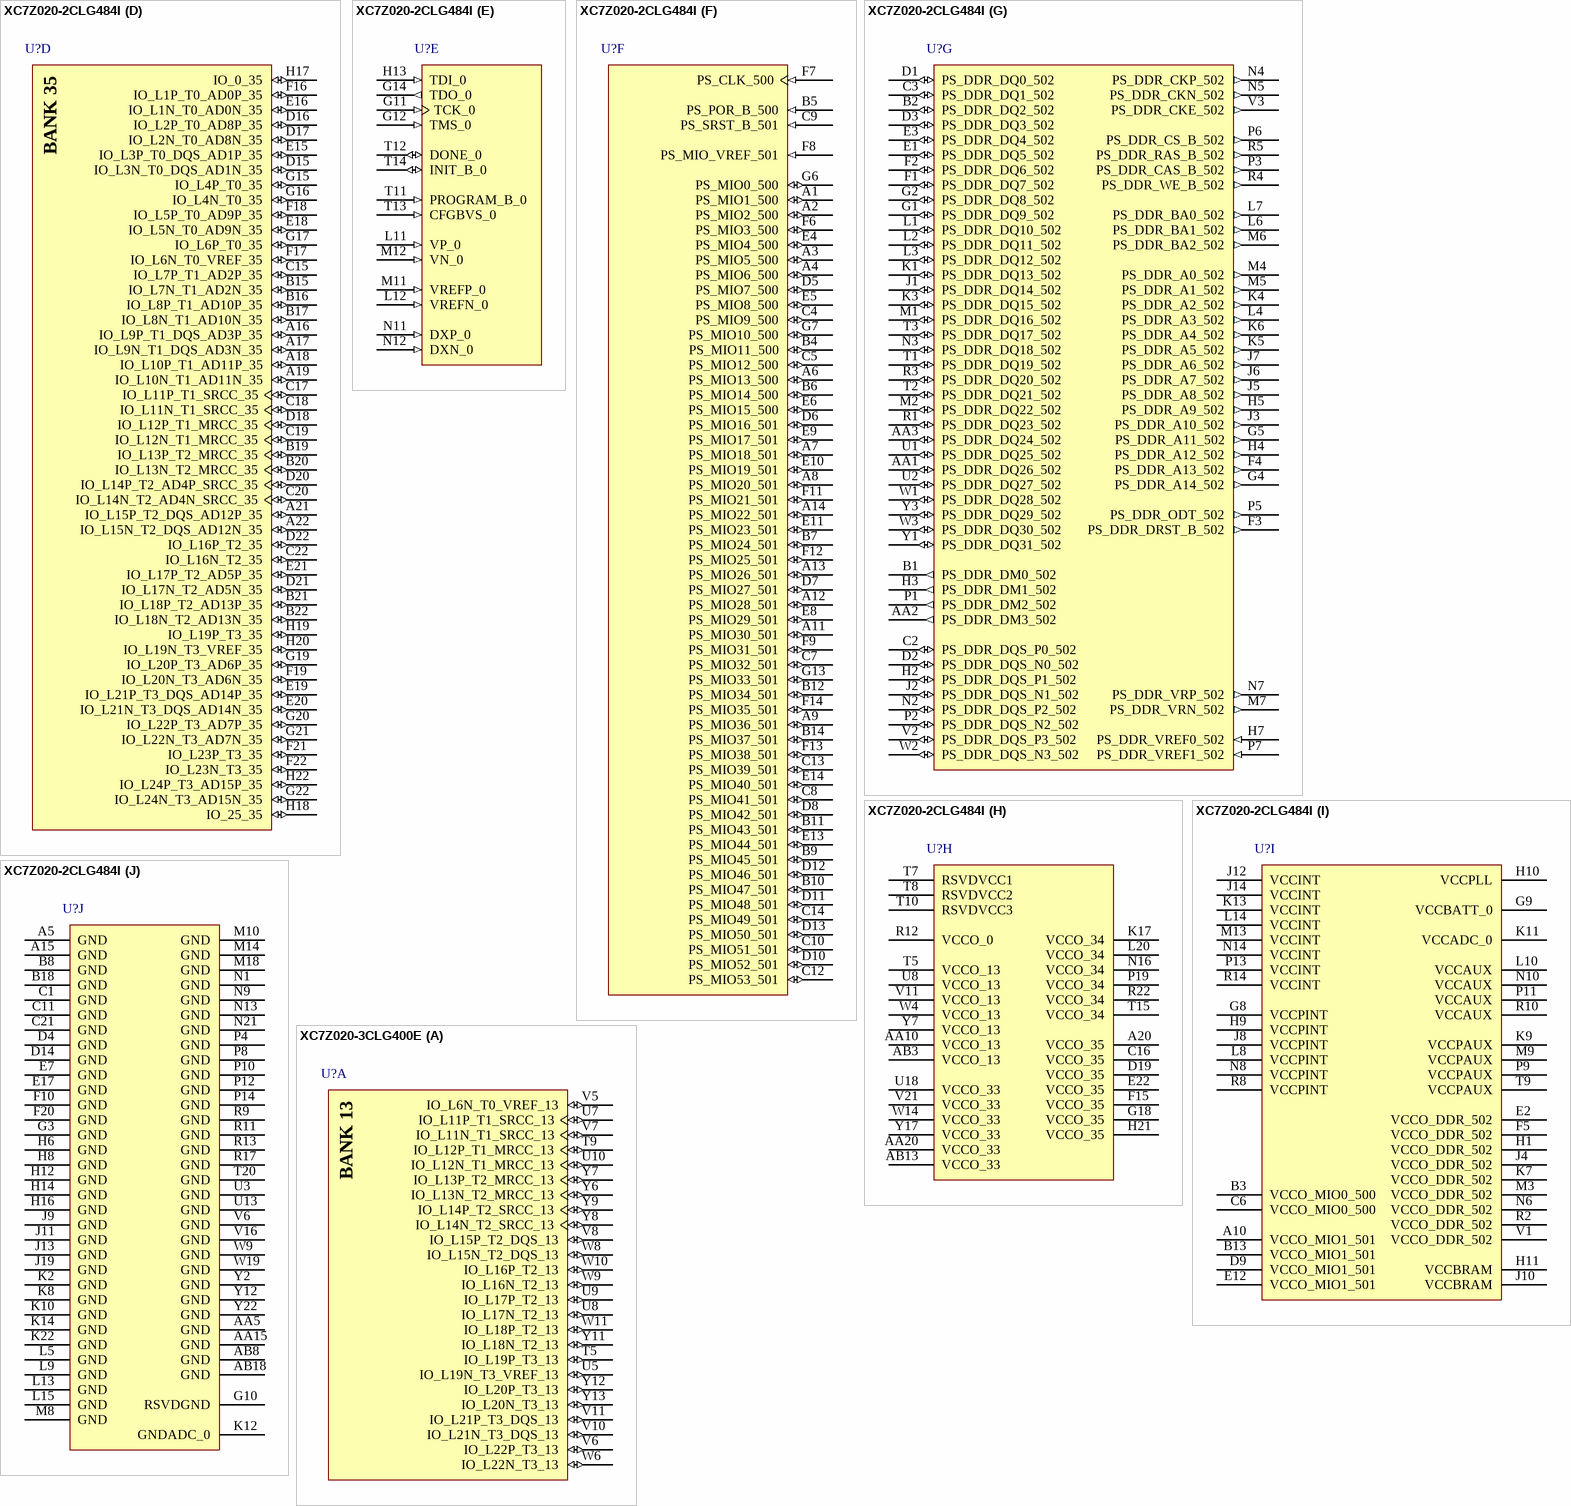
[diagram p18: symbols XC7Z020-2CLG484I to XC7Z020-3CLG400E]